# Altium schematic symbol library RD3399-20181013_Library.SchLib: 411 symbols (part 13 of 13)
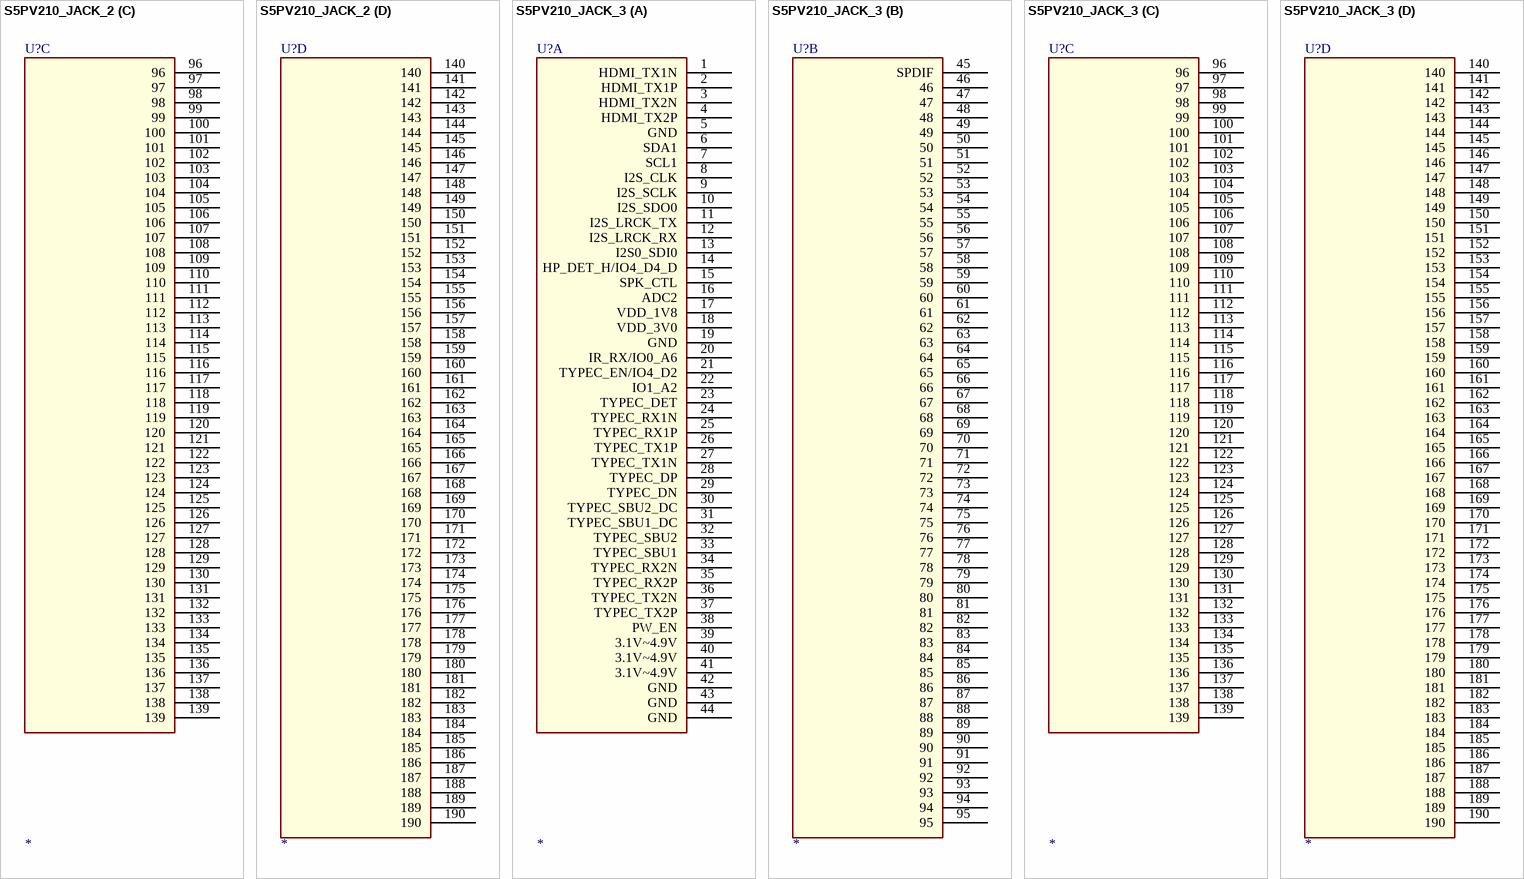
[diagram p197: symbols S5PV210_JACK_2 to S5PV210_JACK_3]

## S5PV210_JACK_2
designator U?
footprint S5PV210_JACK
part A pins: 1, 2, 3, 4, 5, 6, 7, 8, 9, 10, 11, 12, 13, 14, 15, 16, 17, 18, 19, 20, 21, 22, 23, 24, 25, 26, 27, 28, 29, 30, 31, 32, 33, 34, 35, 36, 37, 38, 39, 40, 41, 42, 43, 44
part B pins: 45 SPDIF, 46, 47, 48, 49, 50, 51, 52, 53, 54, 55, 56, 57, 58, 59, 60, 61, 62, 63, 64, 65, 66, 67, 68, 69, 70, 71, 72, 73, 74, 75, 76, 77, 78, 79, 80, 81, 82, 83, 84, 85, 86, 87, 88, 89, 90, 91, 92, 93, 94, 95
part C pins: 96, 97, 98, 99, 100, 101, 102, 103, 104, 105, 106, 107, 108, 109, 110, 111, 112, 113, 114, 115, 116, 117, 118, 119, 120, 121, 122, 123, 124, 125, 126, 127, 128, 129, 130, 131, 132, 133, 134, 135, 136, 137, 138, 139
part D pins: 140, 141, 142, 143, 144, 145, 146, 147, 148, 149, 150, 151, 152, 153, 154, 155, 156, 157, 158, 159, 160, 161, 162, 163, 164, 165, 166, 167, 168, 169, 170, 171, 172, 173, 174, 175, 176, 177, 178, 179, 180, 181, 182, 183, 184, 185, 186, 187, 188, 189, 190

## S5PV210_JACK_3
designator U?
footprint S5PV210_JACK
part A pins: 1 HDMI_TX1N, 2 HDMI_TX1P, 3 HDMI_TX2N, 4 HDMI_TX2P, 5 GND (power), 6 SDA1, 7 SCL1, 8 I2S_CLK, 9 I2S_SCLK, 10 I2S_SDO0, 11 I2S_LRCK_TX, 12 I2S_LRCK_RX, 13 I2S0_SDI0, 14 HP_DET_H/IO4_D4_D, 15 SPK_CTL, 16 ADC2, 17 VDD_1V8, 18 VDD_3V0, 19 GND (power), 20 IR_RX/IO0_A6, 21 TYPEC_EN/IO4_D2, 22 IO1_A2, 23 TYPEC_DET, 24 TYPEC_RX1N, 25 TYPEC_RX1P, 26 TYPEC_TX1P, 27 TYPEC_TX1N, 28 TYPEC_DP, 29 TYPEC_DN, 30 TYPEC_SBU2_DC, 31 TYPEC_SBU1_DC, 32 TYPEC_SBU2, 33 TYPEC_SBU1, 34 TYPEC_RX2N, 35 TYPEC_RX2P, 36 TYPEC_TX2N, 37 TYPEC_TX2P, 38 PW_EN, 39 3.1V~4.9V (power), 40 3.1V~4.9V (power), 41 3.1V~4.9V (power), 42 GND (power), 43 GND (power), 44 GND (power)
part B pins: 45 SPDIF, 46, 47, 48, 49, 50, 51, 52, 53, 54, 55, 56, 57, 58, 59, 60, 61, 62, 63, 64, 65, 66, 67, 68, 69, 70, 71, 72, 73, 74, 75, 76, 77, 78, 79, 80, 81, 82, 83, 84, 85, 86, 87, 88, 89, 90, 91, 92, 93, 94, 95
part C pins: 96, 97, 98, 99, 100, 101, 102, 103, 104, 105, 106, 107, 108, 109, 110, 111, 112, 113, 114, 115, 116, 117, 118, 119, 120, 121, 122, 123, 124, 125, 126, 127, 128, 129, 130, 131, 132, 133, 134, 135, 136, 137, 138, 139
part D pins: 140, 141, 142, 143, 144, 145, 146, 147, 148, 149, 150, 151, 152, 153, 154, 155, 156, 157, 158, 159, 160, 161, 162, 163, 164, 165, 166, 167, 168, 169, 170, 171, 172, 173, 174, 175, 176, 177, 178, 179, 180, 181, 182, 183, 184, 185, 186, 187, 188, 189, 190

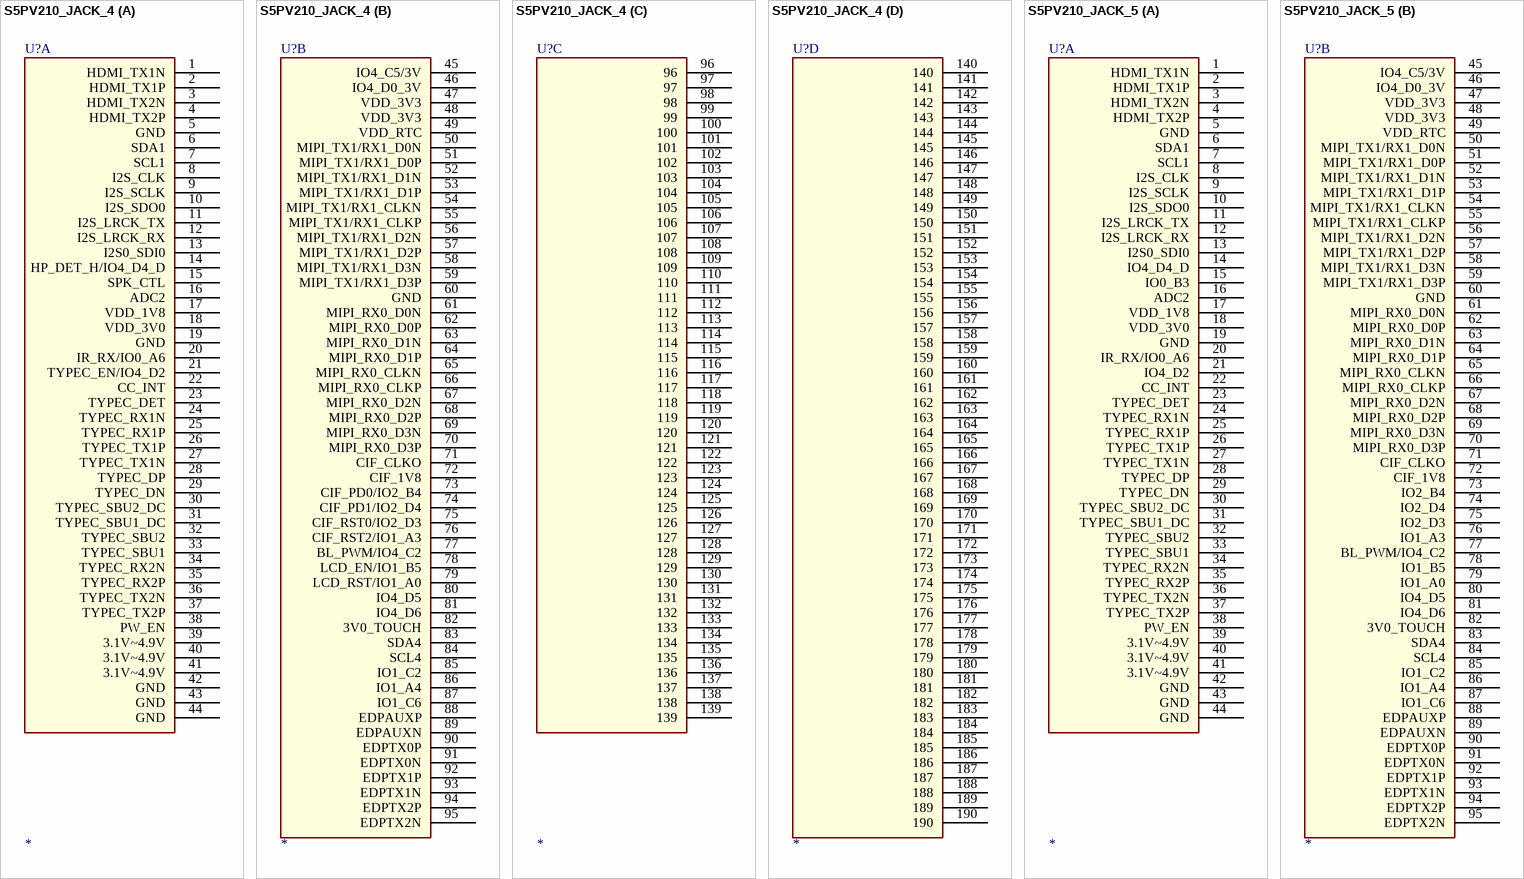
[diagram p176: symbols S5PV210_JACK_4 to S5PV210_JACK_5]

## S5PV210_JACK_4
designator U?
footprint S5PV210_JACK
part A pins: 1 HDMI_TX1N, 2 HDMI_TX1P, 3 HDMI_TX2N, 4 HDMI_TX2P, 5 GND (power), 6 SDA1, 7 SCL1, 8 I2S_CLK, 9 I2S_SCLK, 10 I2S_SDO0, 11 I2S_LRCK_TX, 12 I2S_LRCK_RX, 13 I2S0_SDI0, 14 HP_DET_H/IO4_D4_D, 15 SPK_CTL, 16 ADC2, 17 VDD_1V8, 18 VDD_3V0, 19 GND (power), 20 IR_RX/IO0_A6, 21 TYPEC_EN/IO4_D2, 22 CC_INT, 23 TYPEC_DET, 24 TYPEC_RX1N, 25 TYPEC_RX1P, 26 TYPEC_TX1P, 27 TYPEC_TX1N, 28 TYPEC_DP, 29 TYPEC_DN, 30 TYPEC_SBU2_DC, 31 TYPEC_SBU1_DC, 32 TYPEC_SBU2, 33 TYPEC_SBU1, 34 TYPEC_RX2N, 35 TYPEC_RX2P, 36 TYPEC_TX2N, 37 TYPEC_TX2P, 38 PW_EN, 39 3.1V~4.9V (power), 40 3.1V~4.9V (power), 41 3.1V~4.9V (power), 42 GND (power), 43 GND (power), 44 GND (power)
part B pins: 45 IO4_C5/3V, 46 IO4_D0_3V, 47 VDD_3V3 (power), 48 VDD_3V3 (power), 49 VDD_RTC, 50 MIPI_TX1/RX1_D0N, 51 MIPI_TX1/RX1_D0P, 52 MIPI_TX1/RX1_D1N, 53 MIPI_TX1/RX1_D1P, 54 MIPI_TX1/RX1_CLKN, 55 MIPI_TX1/RX1_CLKP, 56 MIPI_TX1/RX1_D2N, 57 MIPI_TX1/RX1_D2P, 58 MIPI_TX1/RX1_D3N, 59 MIPI_TX1/RX1_D3P, 60 GND, 61 MIPI_RX0_D0N, 62 MIPI_RX0_D0P, 63 MIPI_RX0_D1N, 64 MIPI_RX0_D1P, 65 MIPI_RX0_CLKN, 66 MIPI_RX0_CLKP, 67 MIPI_RX0_D2N, 68 MIPI_RX0_D2P, 69 MIPI_RX0_D3N, 70 MIPI_RX0_D3P, 71 CIF_CLKO, 72 CIF_1V8, 73 CIF_PD0/IO2_B4, 74 CIF_PD1/IO2_D4, 75 CIF_RST0/IO2_D3, 76 CIF_RST2/IO1_A3, 77 BL_PWM/IO4_C2, 78 LCD_EN/IO1_B5, 79 LCD_RST/IO1_A0, 80 IO4_D5, 81 IO4_D6, 82 3V0_TOUCH, 83 SDA4, 84 SCL4, 85 IO1_C2, 86 IO1_A4, 87 IO1_C6, 88 EDPAUXP, 89 EDPAUXN, 90 EDPTX0P, 91 EDPTX0N, 92 EDPTX1P, 93 EDPTX1N, 94 EDPTX2P, 95 EDPTX2N
part C pins: 96, 97, 98, 99, 100, 101, 102, 103, 104, 105, 106, 107, 108, 109, 110, 111, 112, 113, 114, 115, 116, 117, 118, 119, 120, 121, 122, 123, 124, 125, 126, 127, 128, 129, 130, 131, 132, 133, 134, 135, 136, 137, 138, 139
part D pins: 140, 141, 142, 143, 144, 145, 146, 147, 148, 149, 150, 151, 152, 153, 154, 155, 156, 157, 158, 159, 160, 161, 162, 163, 164, 165, 166, 167, 168, 169, 170, 171, 172, 173, 174, 175, 176, 177, 178, 179, 180, 181, 182, 183, 184, 185, 186, 187, 188, 189, 190

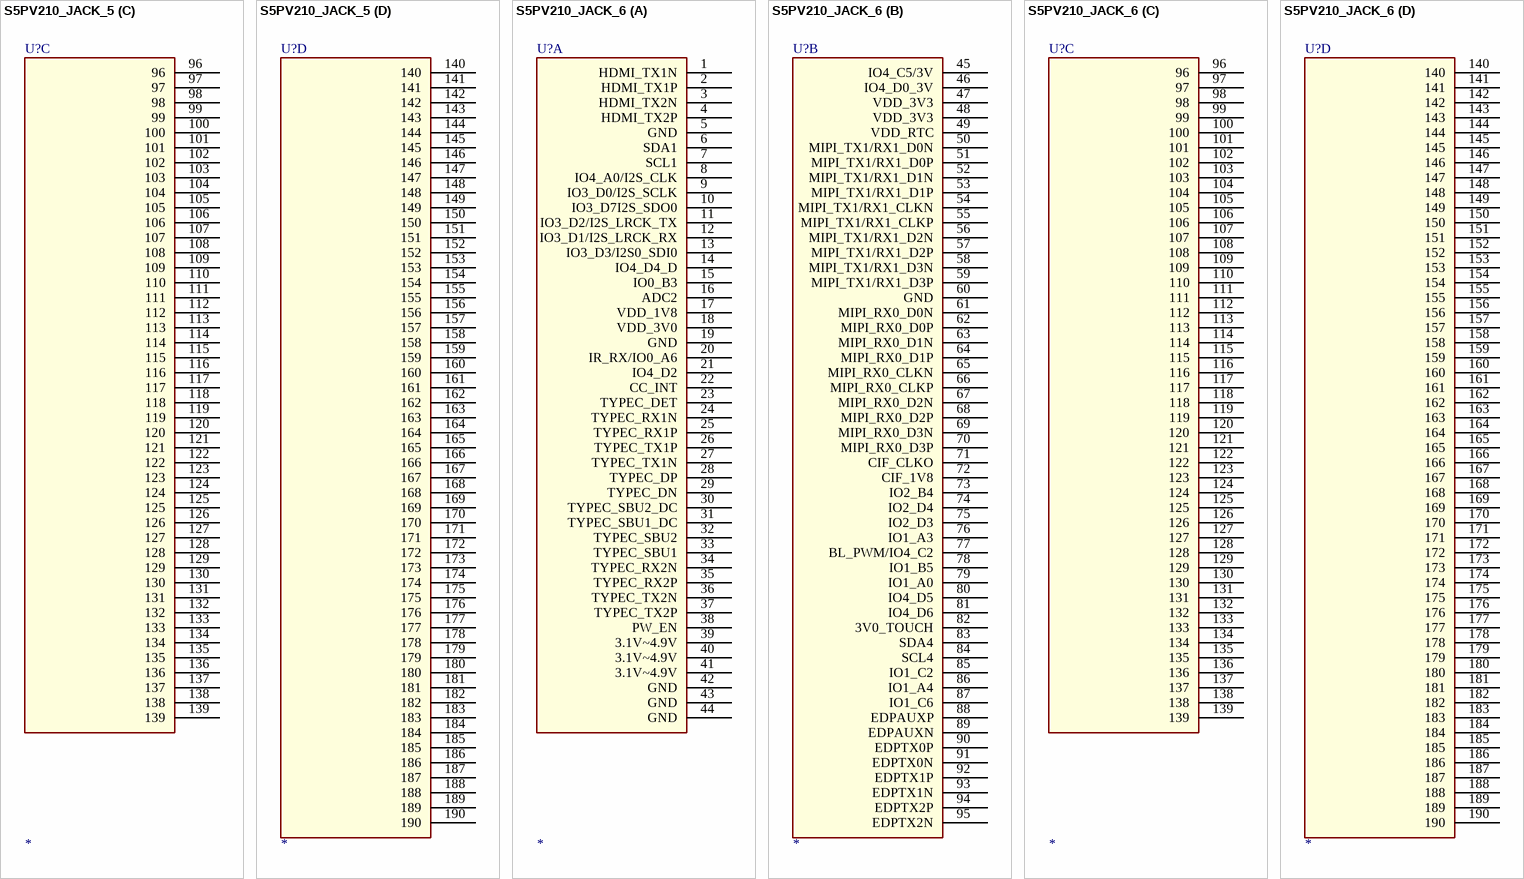
[diagram p177: symbols S5PV210_JACK_5 to S5PV210_JACK_6]

## S5PV210_JACK_5
designator U?
footprint S5PV210_JACK
part A pins: 1 HDMI_TX1N, 2 HDMI_TX1P, 3 HDMI_TX2N, 4 HDMI_TX2P, 5 GND (power), 6 SDA1, 7 SCL1, 8 I2S_CLK, 9 I2S_SCLK, 10 I2S_SDO0, 11 I2S_LRCK_TX, 12 I2S_LRCK_RX, 13 I2S0_SDI0, 14 IO4_D4_D, 15 IO0_B3, 16 ADC2, 17 VDD_1V8, 18 VDD_3V0, 19 GND (power), 20 IR_RX/IO0_A6, 21 IO4_D2, 22 CC_INT, 23 TYPEC_DET, 24 TYPEC_RX1N, 25 TYPEC_RX1P, 26 TYPEC_TX1P, 27 TYPEC_TX1N, 28 TYPEC_DP, 29 TYPEC_DN, 30 TYPEC_SBU2_DC, 31 TYPEC_SBU1_DC, 32 TYPEC_SBU2, 33 TYPEC_SBU1, 34 TYPEC_RX2N, 35 TYPEC_RX2P, 36 TYPEC_TX2N, 37 TYPEC_TX2P, 38 PW_EN, 39 3.1V~4.9V (power), 40 3.1V~4.9V (power), 41 3.1V~4.9V (power), 42 GND (power), 43 GND (power), 44 GND (power)
part B pins: 45 IO4_C5/3V, 46 IO4_D0_3V, 47 VDD_3V3 (power), 48 VDD_3V3 (power), 49 VDD_RTC, 50 MIPI_TX1/RX1_D0N, 51 MIPI_TX1/RX1_D0P, 52 MIPI_TX1/RX1_D1N, 53 MIPI_TX1/RX1_D1P, 54 MIPI_TX1/RX1_CLKN, 55 MIPI_TX1/RX1_CLKP, 56 MIPI_TX1/RX1_D2N, 57 MIPI_TX1/RX1_D2P, 58 MIPI_TX1/RX1_D3N, 59 MIPI_TX1/RX1_D3P, 60 GND, 61 MIPI_RX0_D0N, 62 MIPI_RX0_D0P, 63 MIPI_RX0_D1N, 64 MIPI_RX0_D1P, 65 MIPI_RX0_CLKN, 66 MIPI_RX0_CLKP, 67 MIPI_RX0_D2N, 68 MIPI_RX0_D2P, 69 MIPI_RX0_D3N, 70 MIPI_RX0_D3P, 71 CIF_CLKO, 72 CIF_1V8, 73 IO2_B4, 74 IO2_D4, 75 IO2_D3, 76 IO1_A3, 77 BL_PWM/IO4_C2, 78 IO1_B5, 79 IO1_A0, 80 IO4_D5, 81 IO4_D6, 82 3V0_TOUCH, 83 SDA4, 84 SCL4, 85 IO1_C2, 86 IO1_A4, 87 IO1_C6, 88 EDPAUXP, 89 EDPAUXN, 90 EDPTX0P, 91 EDPTX0N, 92 EDPTX1P, 93 EDPTX1N, 94 EDPTX2P, 95 EDPTX2N
part C pins: 96, 97, 98, 99, 100, 101, 102, 103, 104, 105, 106, 107, 108, 109, 110, 111, 112, 113, 114, 115, 116, 117, 118, 119, 120, 121, 122, 123, 124, 125, 126, 127, 128, 129, 130, 131, 132, 133, 134, 135, 136, 137, 138, 139
part D pins: 140, 141, 142, 143, 144, 145, 146, 147, 148, 149, 150, 151, 152, 153, 154, 155, 156, 157, 158, 159, 160, 161, 162, 163, 164, 165, 166, 167, 168, 169, 170, 171, 172, 173, 174, 175, 176, 177, 178, 179, 180, 181, 182, 183, 184, 185, 186, 187, 188, 189, 190

## S5PV210_JACK_6
designator U?
footprint S5PV210_JACK
part A pins: 1 HDMI_TX1N, 2 HDMI_TX1P, 3 HDMI_TX2N, 4 HDMI_TX2P, 5 GND (power), 6 SDA1, 7 SCL1, 8 IO4_A0/I2S_CLK, 9 IO3_D0/I2S_SCLK, 10 IO3_D7I2S_SDO0, 11 IO3_D2/I2S_LRCK_TX, 12 IO3_D1/I2S_LRCK_RX, 13 IO3_D3/I2S0_SDI0, 14 IO4_D4_D, 15 IO0_B3, 16 ADC2, 17 VDD_1V8, 18 VDD_3V0, 19 GND (power), 20 IR_RX/IO0_A6, 21 IO4_D2, 22 CC_INT, 23 TYPEC_DET, 24 TYPEC_RX1N, 25 TYPEC_RX1P, 26 TYPEC_TX1P, 27 TYPEC_TX1N, 28 TYPEC_DP, 29 TYPEC_DN, 30 TYPEC_SBU2_DC, 31 TYPEC_SBU1_DC, 32 TYPEC_SBU2, 33 TYPEC_SBU1, 34 TYPEC_RX2N, 35 TYPEC_RX2P, 36 TYPEC_TX2N, 37 TYPEC_TX2P, 38 PW_EN, 39 3.1V~4.9V (power), 40 3.1V~4.9V (power), 41 3.1V~4.9V (power), 42 GND (power), 43 GND (power), 44 GND (power)
part B pins: 45 IO4_C5/3V, 46 IO4_D0_3V, 47 VDD_3V3 (power), 48 VDD_3V3 (power), 49 VDD_RTC, 50 MIPI_TX1/RX1_D0N, 51 MIPI_TX1/RX1_D0P, 52 MIPI_TX1/RX1_D1N, 53 MIPI_TX1/RX1_D1P, 54 MIPI_TX1/RX1_CLKN, 55 MIPI_TX1/RX1_CLKP, 56 MIPI_TX1/RX1_D2N, 57 MIPI_TX1/RX1_D2P, 58 MIPI_TX1/RX1_D3N, 59 MIPI_TX1/RX1_D3P, 60 GND, 61 MIPI_RX0_D0N, 62 MIPI_RX0_D0P, 63 MIPI_RX0_D1N, 64 MIPI_RX0_D1P, 65 MIPI_RX0_CLKN, 66 MIPI_RX0_CLKP, 67 MIPI_RX0_D2N, 68 MIPI_RX0_D2P, 69 MIPI_RX0_D3N, 70 MIPI_RX0_D3P, 71 CIF_CLKO, 72 CIF_1V8, 73 IO2_B4, 74 IO2_D4, 75 IO2_D3, 76 IO1_A3, 77 BL_PWM/IO4_C2, 78 IO1_B5, 79 IO1_A0, 80 IO4_D5, 81 IO4_D6, 82 3V0_TOUCH, 83 SDA4, 84 SCL4, 85 IO1_C2, 86 IO1_A4, 87 IO1_C6, 88 EDPAUXP, 89 EDPAUXN, 90 EDPTX0P, 91 EDPTX0N, 92 EDPTX1P, 93 EDPTX1N, 94 EDPTX2P, 95 EDPTX2N
part C pins: 96, 97, 98, 99, 100, 101, 102, 103, 104, 105, 106, 107, 108, 109, 110, 111, 112, 113, 114, 115, 116, 117, 118, 119, 120, 121, 122, 123, 124, 125, 126, 127, 128, 129, 130, 131, 132, 133, 134, 135, 136, 137, 138, 139
part D pins: 140, 141, 142, 143, 144, 145, 146, 147, 148, 149, 150, 151, 152, 153, 154, 155, 156, 157, 158, 159, 160, 161, 162, 163, 164, 165, 166, 167, 168, 169, 170, 171, 172, 173, 174, 175, 176, 177, 178, 179, 180, 181, 182, 183, 184, 185, 186, 187, 188, 189, 190

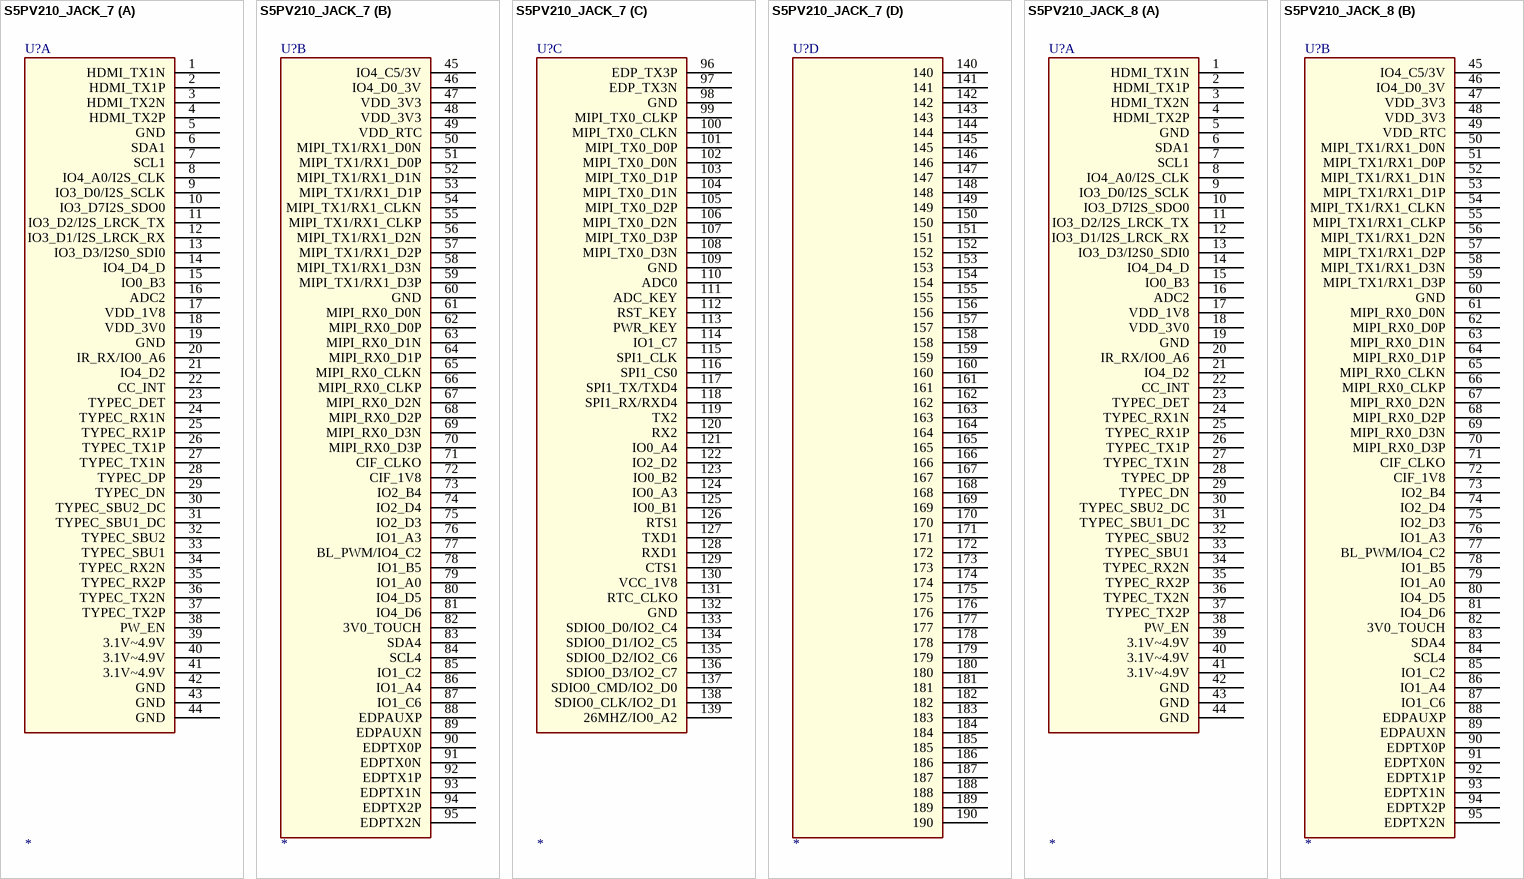
[diagram p178: symbols S5PV210_JACK_7 to S5PV210_JACK_8]

## S5PV210_JACK_7
designator U?
footprint S5PV210_JACK
part A pins: 1 HDMI_TX1N, 2 HDMI_TX1P, 3 HDMI_TX2N, 4 HDMI_TX2P, 5 GND (power), 6 SDA1, 7 SCL1, 8 IO4_A0/I2S_CLK, 9 IO3_D0/I2S_SCLK, 10 IO3_D7I2S_SDO0, 11 IO3_D2/I2S_LRCK_TX, 12 IO3_D1/I2S_LRCK_RX, 13 IO3_D3/I2S0_SDI0, 14 IO4_D4_D, 15 IO0_B3, 16 ADC2, 17 VDD_1V8, 18 VDD_3V0, 19 GND (power), 20 IR_RX/IO0_A6, 21 IO4_D2, 22 CC_INT, 23 TYPEC_DET, 24 TYPEC_RX1N, 25 TYPEC_RX1P, 26 TYPEC_TX1P, 27 TYPEC_TX1N, 28 TYPEC_DP, 29 TYPEC_DN, 30 TYPEC_SBU2_DC, 31 TYPEC_SBU1_DC, 32 TYPEC_SBU2, 33 TYPEC_SBU1, 34 TYPEC_RX2N, 35 TYPEC_RX2P, 36 TYPEC_TX2N, 37 TYPEC_TX2P, 38 PW_EN, 39 3.1V~4.9V (power), 40 3.1V~4.9V (power), 41 3.1V~4.9V (power), 42 GND (power), 43 GND (power), 44 GND (power)
part B pins: 45 IO4_C5/3V, 46 IO4_D0_3V, 47 VDD_3V3 (power), 48 VDD_3V3 (power), 49 VDD_RTC, 50 MIPI_TX1/RX1_D0N, 51 MIPI_TX1/RX1_D0P, 52 MIPI_TX1/RX1_D1N, 53 MIPI_TX1/RX1_D1P, 54 MIPI_TX1/RX1_CLKN, 55 MIPI_TX1/RX1_CLKP, 56 MIPI_TX1/RX1_D2N, 57 MIPI_TX1/RX1_D2P, 58 MIPI_TX1/RX1_D3N, 59 MIPI_TX1/RX1_D3P, 60 GND, 61 MIPI_RX0_D0N, 62 MIPI_RX0_D0P, 63 MIPI_RX0_D1N, 64 MIPI_RX0_D1P, 65 MIPI_RX0_CLKN, 66 MIPI_RX0_CLKP, 67 MIPI_RX0_D2N, 68 MIPI_RX0_D2P, 69 MIPI_RX0_D3N, 70 MIPI_RX0_D3P, 71 CIF_CLKO, 72 CIF_1V8, 73 IO2_B4, 74 IO2_D4, 75 IO2_D3, 76 IO1_A3, 77 BL_PWM/IO4_C2, 78 IO1_B5, 79 IO1_A0, 80 IO4_D5, 81 IO4_D6, 82 3V0_TOUCH, 83 SDA4, 84 SCL4, 85 IO1_C2, 86 IO1_A4, 87 IO1_C6, 88 EDPAUXP, 89 EDPAUXN, 90 EDPTX0P, 91 EDPTX0N, 92 EDPTX1P, 93 EDPTX1N, 94 EDPTX2P, 95 EDPTX2N
part C pins: 96 EDP_TX3P, 97 EDP_TX3N, 98 GND (power), 99 MIPI_TX0_CLKP, 100 MIPI_TX0_CLKN, 101 MIPI_TX0_D0P, 102 MIPI_TX0_D0N, 103 MIPI_TX0_D1P, 104 MIPI_TX0_D1N, 105 MIPI_TX0_D2P, 106 MIPI_TX0_D2N, 107 MIPI_TX0_D3P, 108 MIPI_TX0_D3N, 109 GND (power), 110 ADC0, 111 ADC_KEY, 112 RST_KEY, 113 PWR_KEY, 114 IO1_C7, 115 SPI1_CLK, 116 SPI1_CS0, 117 SPI1_TX/TXD4, 118 SPI1_RX/RXD4, 119 TX2, 120 RX2, 121 IO0_A4, 122 IO2_D2, 123 IO0_B2, 124 IO0_A3, 125 IO0_B1, 126 RTS1, 127 TXD1, 128 RXD1, 129 CTS1, 130 VCC_1V8, 131 RTC_CLKO, 132 GND (power), 133 SDIO0_D0/IO2_C4, 134 SDIO0_D1/IO2_C5, 135 SDIO0_D2/IO2_C6, 136 SDIO0_D3/IO2_C7, 137 SDIO0_CMD/IO2_D0, 138 SDIO0_CLK/IO2_D1, 139 26MHZ/IO0_A2
part D pins: 140, 141, 142, 143, 144, 145, 146, 147, 148, 149, 150, 151, 152, 153, 154, 155, 156, 157, 158, 159, 160, 161, 162, 163, 164, 165, 166, 167, 168, 169, 170, 171, 172, 173, 174, 175, 176, 177, 178, 179, 180, 181, 182, 183, 184, 185, 186, 187, 188, 189, 190

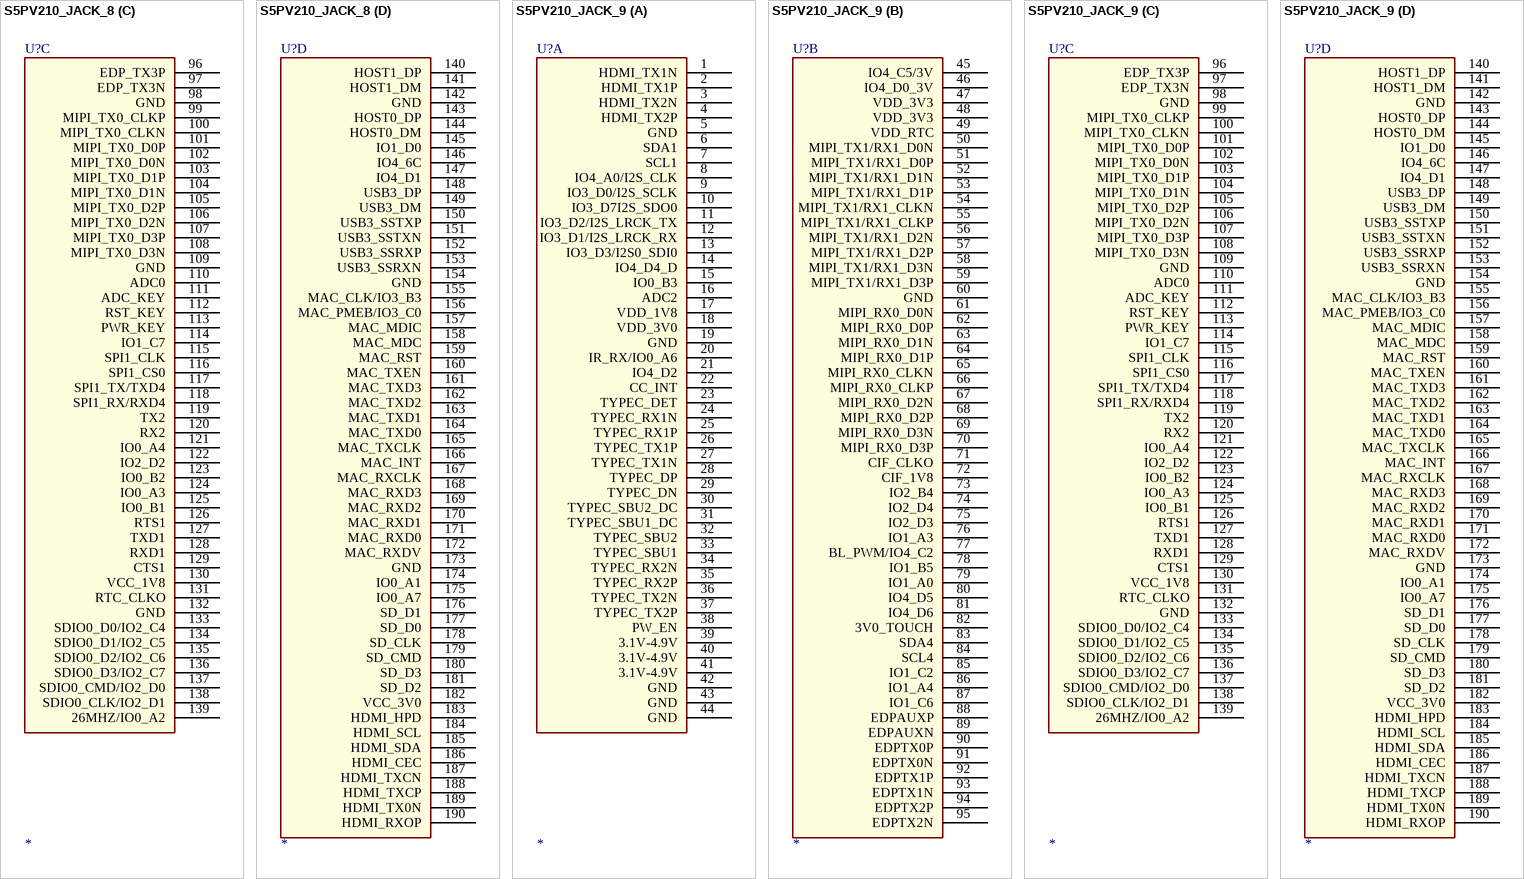
[diagram p179: symbols S5PV210_JACK_8 to S5PV210_JACK_9]

## S5PV210_JACK_8
designator U?
footprint S5PV210_JACK
part A pins: 1 HDMI_TX1N, 2 HDMI_TX1P, 3 HDMI_TX2N, 4 HDMI_TX2P, 5 GND (power), 6 SDA1, 7 SCL1, 8 IO4_A0/I2S_CLK, 9 IO3_D0/I2S_SCLK, 10 IO3_D7I2S_SDO0, 11 IO3_D2/I2S_LRCK_TX, 12 IO3_D1/I2S_LRCK_RX, 13 IO3_D3/I2S0_SDI0, 14 IO4_D4_D, 15 IO0_B3, 16 ADC2, 17 VDD_1V8, 18 VDD_3V0, 19 GND (power), 20 IR_RX/IO0_A6, 21 IO4_D2, 22 CC_INT, 23 TYPEC_DET, 24 TYPEC_RX1N, 25 TYPEC_RX1P, 26 TYPEC_TX1P, 27 TYPEC_TX1N, 28 TYPEC_DP, 29 TYPEC_DN, 30 TYPEC_SBU2_DC, 31 TYPEC_SBU1_DC, 32 TYPEC_SBU2, 33 TYPEC_SBU1, 34 TYPEC_RX2N, 35 TYPEC_RX2P, 36 TYPEC_TX2N, 37 TYPEC_TX2P, 38 PW_EN, 39 3.1V~4.9V (power), 40 3.1V~4.9V (power), 41 3.1V~4.9V (power), 42 GND (power), 43 GND (power), 44 GND (power)
part B pins: 45 IO4_C5/3V, 46 IO4_D0_3V, 47 VDD_3V3 (power), 48 VDD_3V3 (power), 49 VDD_RTC, 50 MIPI_TX1/RX1_D0N, 51 MIPI_TX1/RX1_D0P, 52 MIPI_TX1/RX1_D1N, 53 MIPI_TX1/RX1_D1P, 54 MIPI_TX1/RX1_CLKN, 55 MIPI_TX1/RX1_CLKP, 56 MIPI_TX1/RX1_D2N, 57 MIPI_TX1/RX1_D2P, 58 MIPI_TX1/RX1_D3N, 59 MIPI_TX1/RX1_D3P, 60 GND, 61 MIPI_RX0_D0N, 62 MIPI_RX0_D0P, 63 MIPI_RX0_D1N, 64 MIPI_RX0_D1P, 65 MIPI_RX0_CLKN, 66 MIPI_RX0_CLKP, 67 MIPI_RX0_D2N, 68 MIPI_RX0_D2P, 69 MIPI_RX0_D3N, 70 MIPI_RX0_D3P, 71 CIF_CLKO, 72 CIF_1V8, 73 IO2_B4, 74 IO2_D4, 75 IO2_D3, 76 IO1_A3, 77 BL_PWM/IO4_C2, 78 IO1_B5, 79 IO1_A0, 80 IO4_D5, 81 IO4_D6, 82 3V0_TOUCH, 83 SDA4, 84 SCL4, 85 IO1_C2, 86 IO1_A4, 87 IO1_C6, 88 EDPAUXP, 89 EDPAUXN, 90 EDPTX0P, 91 EDPTX0N, 92 EDPTX1P, 93 EDPTX1N, 94 EDPTX2P, 95 EDPTX2N
part C pins: 96 EDP_TX3P, 97 EDP_TX3N, 98 GND (power), 99 MIPI_TX0_CLKP, 100 MIPI_TX0_CLKN, 101 MIPI_TX0_D0P, 102 MIPI_TX0_D0N, 103 MIPI_TX0_D1P, 104 MIPI_TX0_D1N, 105 MIPI_TX0_D2P, 106 MIPI_TX0_D2N, 107 MIPI_TX0_D3P, 108 MIPI_TX0_D3N, 109 GND (power), 110 ADC0, 111 ADC_KEY, 112 RST_KEY, 113 PWR_KEY, 114 IO1_C7, 115 SPI1_CLK, 116 SPI1_CS0, 117 SPI1_TX/TXD4, 118 SPI1_RX/RXD4, 119 TX2, 120 RX2, 121 IO0_A4, 122 IO2_D2, 123 IO0_B2, 124 IO0_A3, 125 IO0_B1, 126 RTS1, 127 TXD1, 128 RXD1, 129 CTS1, 130 VCC_1V8, 131 RTC_CLKO, 132 GND (power), 133 SDIO0_D0/IO2_C4, 134 SDIO0_D1/IO2_C5, 135 SDIO0_D2/IO2_C6, 136 SDIO0_D3/IO2_C7, 137 SDIO0_CMD/IO2_D0, 138 SDIO0_CLK/IO2_D1, 139 26MHZ/IO0_A2
part D pins: 140 HOST1_DP, 141 HOST1_DM, 142 GND (power), 143 HOST0_DP, 144 HOST0_DM, 145 IO1_D0, 146 IO4_6C, 147 IO4_D1, 148 USB3_DP, 149 USB3_DM, 150 USB3_SSTXP, 151 USB3_SSTXN, 152 USB3_SSRXP, 153 USB3_SSRXN, 154 GND (power), 155 MAC_CLK/IO3_B3, 156 MAC_PMEB/IO3_C0, 157 MAC_MDIC, 158 MAC_MDC, 159 MAC_RST, 160 MAC_TXEN, 161 MAC_TXD3, 162 MAC_TXD2, 163 MAC_TXD1, 164 MAC_TXD0, 165 MAC_TXCLK, 166 MAC_INT, 167 MAC_RXCLK, 168 MAC_RXD3, 169 MAC_RXD2, 170 MAC_RXD1, 171 MAC_RXD0, 172 MAC_RXDV, 173 GND (power), 174 IO0_A1, 175 IO0_A7, 176 SD_D1, 177 SD_D0, 178 SD_CLK, 179 SD_CMD, 180 SD_D3, 181 SD_D2, 182 VCC_3V0, 183 HDMI_HPD, 184 HDMI_SCL, 185 HDMI_SDA, 186 HDMI_CEC, 187 HDMI_TXCN, 188 HDMI_TXCP, 189 HDMI_TX0N, 190 HDMI_RXOP

## S5PV210_JACK_9
designator U?
footprint S5PV210_JACK
part A pins: 1 HDMI_TX1N, 2 HDMI_TX1P, 3 HDMI_TX2N, 4 HDMI_TX2P, 5 GND (power), 6 SDA1, 7 SCL1, 8 IO4_A0/I2S_CLK, 9 IO3_D0/I2S_SCLK, 10 IO3_D7I2S_SDO0, 11 IO3_D2/I2S_LRCK_TX, 12 IO3_D1/I2S_LRCK_RX, 13 IO3_D3/I2S0_SDI0, 14 IO4_D4_D, 15 IO0_B3, 16 ADC2, 17 VDD_1V8, 18 VDD_3V0, 19 GND (power), 20 IR_RX/IO0_A6, 21 IO4_D2, 22 CC_INT, 23 TYPEC_DET, 24 TYPEC_RX1N, 25 TYPEC_RX1P, 26 TYPEC_TX1P, 27 TYPEC_TX1N, 28 TYPEC_DP, 29 TYPEC_DN, 30 TYPEC_SBU2_DC, 31 TYPEC_SBU1_DC, 32 TYPEC_SBU2, 33 TYPEC_SBU1, 34 TYPEC_RX2N, 35 TYPEC_RX2P, 36 TYPEC_TX2N, 37 TYPEC_TX2P, 38 PW_EN, 39 3.1V-4.9V (power), 40 3.1V-4.9V (power), 41 3.1V-4.9V (power), 42 GND (power), 43 GND (power), 44 GND (power)
part B pins: 45 IO4_C5/3V, 46 IO4_D0_3V, 47 VDD_3V3 (power), 48 VDD_3V3 (power), 49 VDD_RTC, 50 MIPI_TX1/RX1_D0N, 51 MIPI_TX1/RX1_D0P, 52 MIPI_TX1/RX1_D1N, 53 MIPI_TX1/RX1_D1P, 54 MIPI_TX1/RX1_CLKN, 55 MIPI_TX1/RX1_CLKP, 56 MIPI_TX1/RX1_D2N, 57 MIPI_TX1/RX1_D2P, 58 MIPI_TX1/RX1_D3N, 59 MIPI_TX1/RX1_D3P, 60 GND, 61 MIPI_RX0_D0N, 62 MIPI_RX0_D0P, 63 MIPI_RX0_D1N, 64 MIPI_RX0_D1P, 65 MIPI_RX0_CLKN, 66 MIPI_RX0_CLKP, 67 MIPI_RX0_D2N, 68 MIPI_RX0_D2P, 69 MIPI_RX0_D3N, 70 MIPI_RX0_D3P, 71 CIF_CLKO, 72 CIF_1V8, 73 IO2_B4, 74 IO2_D4, 75 IO2_D3, 76 IO1_A3, 77 BL_PWM/IO4_C2, 78 IO1_B5, 79 IO1_A0, 80 IO4_D5, 81 IO4_D6, 82 3V0_TOUCH, 83 SDA4, 84 SCL4, 85 IO1_C2, 86 IO1_A4, 87 IO1_C6, 88 EDPAUXP, 89 EDPAUXN, 90 EDPTX0P, 91 EDPTX0N, 92 EDPTX1P, 93 EDPTX1N, 94 EDPTX2P, 95 EDPTX2N
part C pins: 96 EDP_TX3P, 97 EDP_TX3N, 98 GND (power), 99 MIPI_TX0_CLKP, 100 MIPI_TX0_CLKN, 101 MIPI_TX0_D0P, 102 MIPI_TX0_D0N, 103 MIPI_TX0_D1P, 104 MIPI_TX0_D1N, 105 MIPI_TX0_D2P, 106 MIPI_TX0_D2N, 107 MIPI_TX0_D3P, 108 MIPI_TX0_D3N, 109 GND (power), 110 ADC0, 111 ADC_KEY, 112 RST_KEY, 113 PWR_KEY, 114 IO1_C7, 115 SPI1_CLK, 116 SPI1_CS0, 117 SPI1_TX/TXD4, 118 SPI1_RX/RXD4, 119 TX2, 120 RX2, 121 IO0_A4, 122 IO2_D2, 123 IO0_B2, 124 IO0_A3, 125 IO0_B1, 126 RTS1, 127 TXD1, 128 RXD1, 129 CTS1, 130 VCC_1V8, 131 RTC_CLKO, 132 GND (power), 133 SDIO0_D0/IO2_C4, 134 SDIO0_D1/IO2_C5, 135 SDIO0_D2/IO2_C6, 136 SDIO0_D3/IO2_C7, 137 SDIO0_CMD/IO2_D0, 138 SDIO0_CLK/IO2_D1, 139 26MHZ/IO0_A2
part D pins: 140 HOST1_DP, 141 HOST1_DM, 142 GND (power), 143 HOST0_DP, 144 HOST0_DM, 145 IO1_D0, 146 IO4_6C, 147 IO4_D1, 148 USB3_DP, 149 USB3_DM, 150 USB3_SSTXP, 151 USB3_SSTXN, 152 USB3_SSRXP, 153 USB3_SSRXN, 154 GND (power), 155 MAC_CLK/IO3_B3, 156 MAC_PMEB/IO3_C0, 157 MAC_MDIC, 158 MAC_MDC, 159 MAC_RST, 160 MAC_TXEN, 161 MAC_TXD3, 162 MAC_TXD2, 163 MAC_TXD1, 164 MAC_TXD0, 165 MAC_TXCLK, 166 MAC_INT, 167 MAC_RXCLK, 168 MAC_RXD3, 169 MAC_RXD2, 170 MAC_RXD1, 171 MAC_RXD0, 172 MAC_RXDV, 173 GND (power), 174 IO0_A1, 175 IO0_A7, 176 SD_D1, 177 SD_D0, 178 SD_CLK, 179 SD_CMD, 180 SD_D3, 181 SD_D2, 182 VCC_3V0, 183 HDMI_HPD, 184 HDMI_SCL, 185 HDMI_SDA, 186 HDMI_CEC, 187 HDMI_TXCN, 188 HDMI_TXCP, 189 HDMI_TX0N, 190 HDMI_RXOP

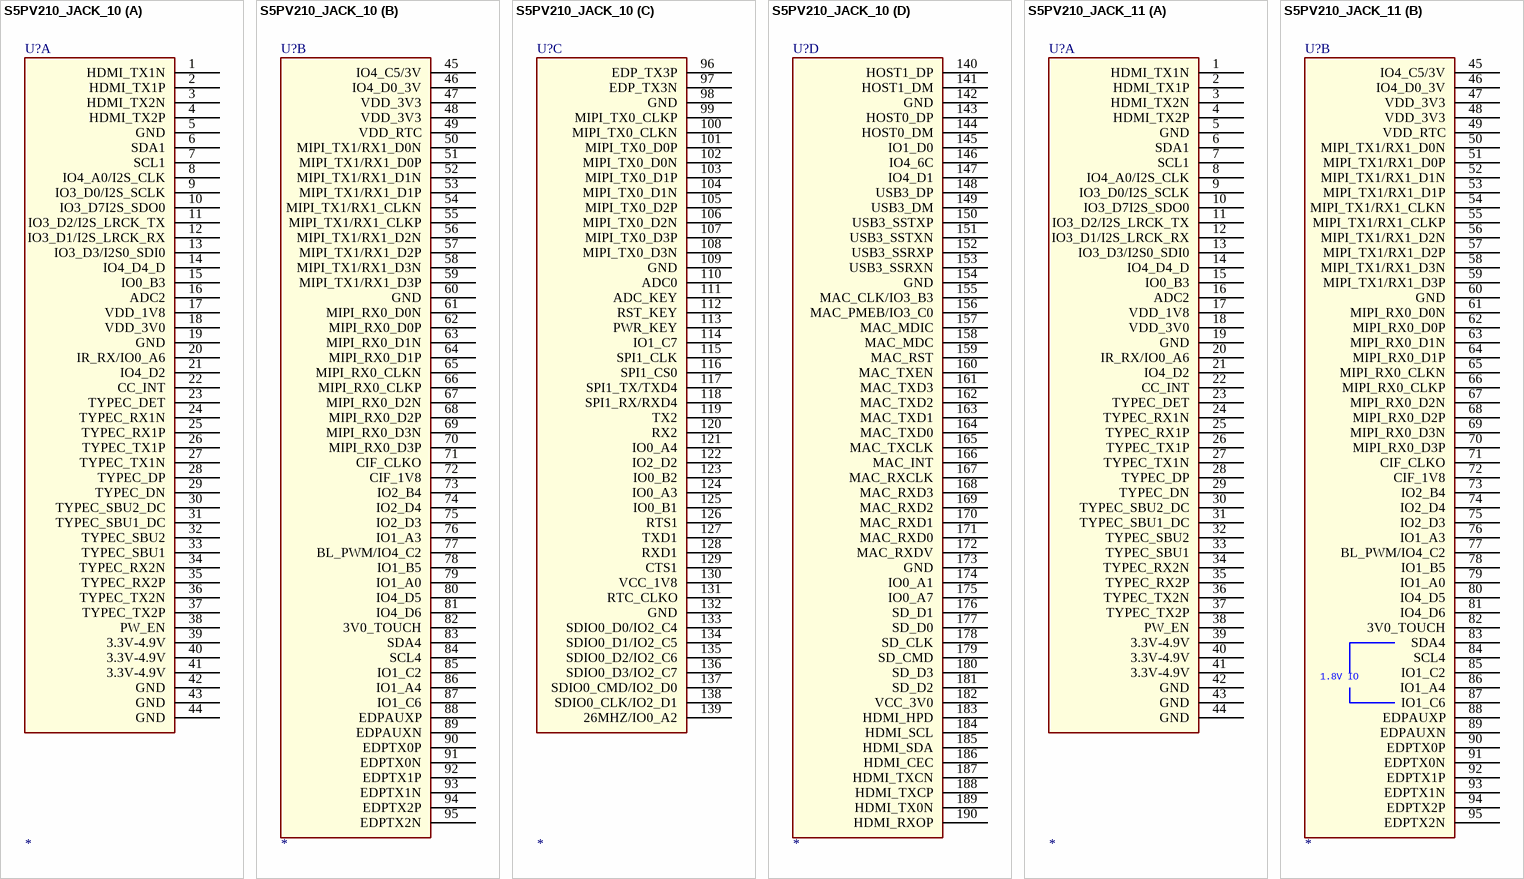
[diagram p180: symbols S5PV210_JACK_10 to S5PV210_JACK_11]

## S5PV210_JACK_10
designator U?
footprint S5PV210_JACK
part A pins: 1 HDMI_TX1N, 2 HDMI_TX1P, 3 HDMI_TX2N, 4 HDMI_TX2P, 5 GND (power), 6 SDA1, 7 SCL1, 8 IO4_A0/I2S_CLK, 9 IO3_D0/I2S_SCLK, 10 IO3_D7I2S_SDO0, 11 IO3_D2/I2S_LRCK_TX, 12 IO3_D1/I2S_LRCK_RX, 13 IO3_D3/I2S0_SDI0, 14 IO4_D4_D, 15 IO0_B3, 16 ADC2, 17 VDD_1V8, 18 VDD_3V0, 19 GND (power), 20 IR_RX/IO0_A6, 21 IO4_D2, 22 CC_INT, 23 TYPEC_DET, 24 TYPEC_RX1N, 25 TYPEC_RX1P, 26 TYPEC_TX1P, 27 TYPEC_TX1N, 28 TYPEC_DP, 29 TYPEC_DN, 30 TYPEC_SBU2_DC, 31 TYPEC_SBU1_DC, 32 TYPEC_SBU2, 33 TYPEC_SBU1, 34 TYPEC_RX2N, 35 TYPEC_RX2P, 36 TYPEC_TX2N, 37 TYPEC_TX2P, 38 PW_EN, 39 3.3V-4.9V (power), 40 3.3V-4.9V (power), 41 3.3V-4.9V (power), 42 GND (power), 43 GND (power), 44 GND (power)
part B pins: 45 IO4_C5/3V, 46 IO4_D0_3V, 47 VDD_3V3 (power), 48 VDD_3V3 (power), 49 VDD_RTC, 50 MIPI_TX1/RX1_D0N, 51 MIPI_TX1/RX1_D0P, 52 MIPI_TX1/RX1_D1N, 53 MIPI_TX1/RX1_D1P, 54 MIPI_TX1/RX1_CLKN, 55 MIPI_TX1/RX1_CLKP, 56 MIPI_TX1/RX1_D2N, 57 MIPI_TX1/RX1_D2P, 58 MIPI_TX1/RX1_D3N, 59 MIPI_TX1/RX1_D3P, 60 GND, 61 MIPI_RX0_D0N, 62 MIPI_RX0_D0P, 63 MIPI_RX0_D1N, 64 MIPI_RX0_D1P, 65 MIPI_RX0_CLKN, 66 MIPI_RX0_CLKP, 67 MIPI_RX0_D2N, 68 MIPI_RX0_D2P, 69 MIPI_RX0_D3N, 70 MIPI_RX0_D3P, 71 CIF_CLKO, 72 CIF_1V8, 73 IO2_B4, 74 IO2_D4, 75 IO2_D3, 76 IO1_A3, 77 BL_PWM/IO4_C2, 78 IO1_B5, 79 IO1_A0, 80 IO4_D5, 81 IO4_D6, 82 3V0_TOUCH, 83 SDA4, 84 SCL4, 85 IO1_C2, 86 IO1_A4, 87 IO1_C6, 88 EDPAUXP, 89 EDPAUXN, 90 EDPTX0P, 91 EDPTX0N, 92 EDPTX1P, 93 EDPTX1N, 94 EDPTX2P, 95 EDPTX2N
part C pins: 96 EDP_TX3P, 97 EDP_TX3N, 98 GND (power), 99 MIPI_TX0_CLKP, 100 MIPI_TX0_CLKN, 101 MIPI_TX0_D0P, 102 MIPI_TX0_D0N, 103 MIPI_TX0_D1P, 104 MIPI_TX0_D1N, 105 MIPI_TX0_D2P, 106 MIPI_TX0_D2N, 107 MIPI_TX0_D3P, 108 MIPI_TX0_D3N, 109 GND (power), 110 ADC0, 111 ADC_KEY, 112 RST_KEY, 113 PWR_KEY, 114 IO1_C7, 115 SPI1_CLK, 116 SPI1_CS0, 117 SPI1_TX/TXD4, 118 SPI1_RX/RXD4, 119 TX2, 120 RX2, 121 IO0_A4, 122 IO2_D2, 123 IO0_B2, 124 IO0_A3, 125 IO0_B1, 126 RTS1, 127 TXD1, 128 RXD1, 129 CTS1, 130 VCC_1V8, 131 RTC_CLKO, 132 GND (power), 133 SDIO0_D0/IO2_C4, 134 SDIO0_D1/IO2_C5, 135 SDIO0_D2/IO2_C6, 136 SDIO0_D3/IO2_C7, 137 SDIO0_CMD/IO2_D0, 138 SDIO0_CLK/IO2_D1, 139 26MHZ/IO0_A2
part D pins: 140 HOST1_DP, 141 HOST1_DM, 142 GND (power), 143 HOST0_DP, 144 HOST0_DM, 145 IO1_D0, 146 IO4_6C, 147 IO4_D1, 148 USB3_DP, 149 USB3_DM, 150 USB3_SSTXP, 151 USB3_SSTXN, 152 USB3_SSRXP, 153 USB3_SSRXN, 154 GND (power), 155 MAC_CLK/IO3_B3, 156 MAC_PMEB/IO3_C0, 157 MAC_MDIC, 158 MAC_MDC, 159 MAC_RST, 160 MAC_TXEN, 161 MAC_TXD3, 162 MAC_TXD2, 163 MAC_TXD1, 164 MAC_TXD0, 165 MAC_TXCLK, 166 MAC_INT, 167 MAC_RXCLK, 168 MAC_RXD3, 169 MAC_RXD2, 170 MAC_RXD1, 171 MAC_RXD0, 172 MAC_RXDV, 173 GND (power), 174 IO0_A1, 175 IO0_A7, 176 SD_D1, 177 SD_D0, 178 SD_CLK, 179 SD_CMD, 180 SD_D3, 181 SD_D2, 182 VCC_3V0, 183 HDMI_HPD, 184 HDMI_SCL, 185 HDMI_SDA, 186 HDMI_CEC, 187 HDMI_TXCN, 188 HDMI_TXCP, 189 HDMI_TX0N, 190 HDMI_RXOP

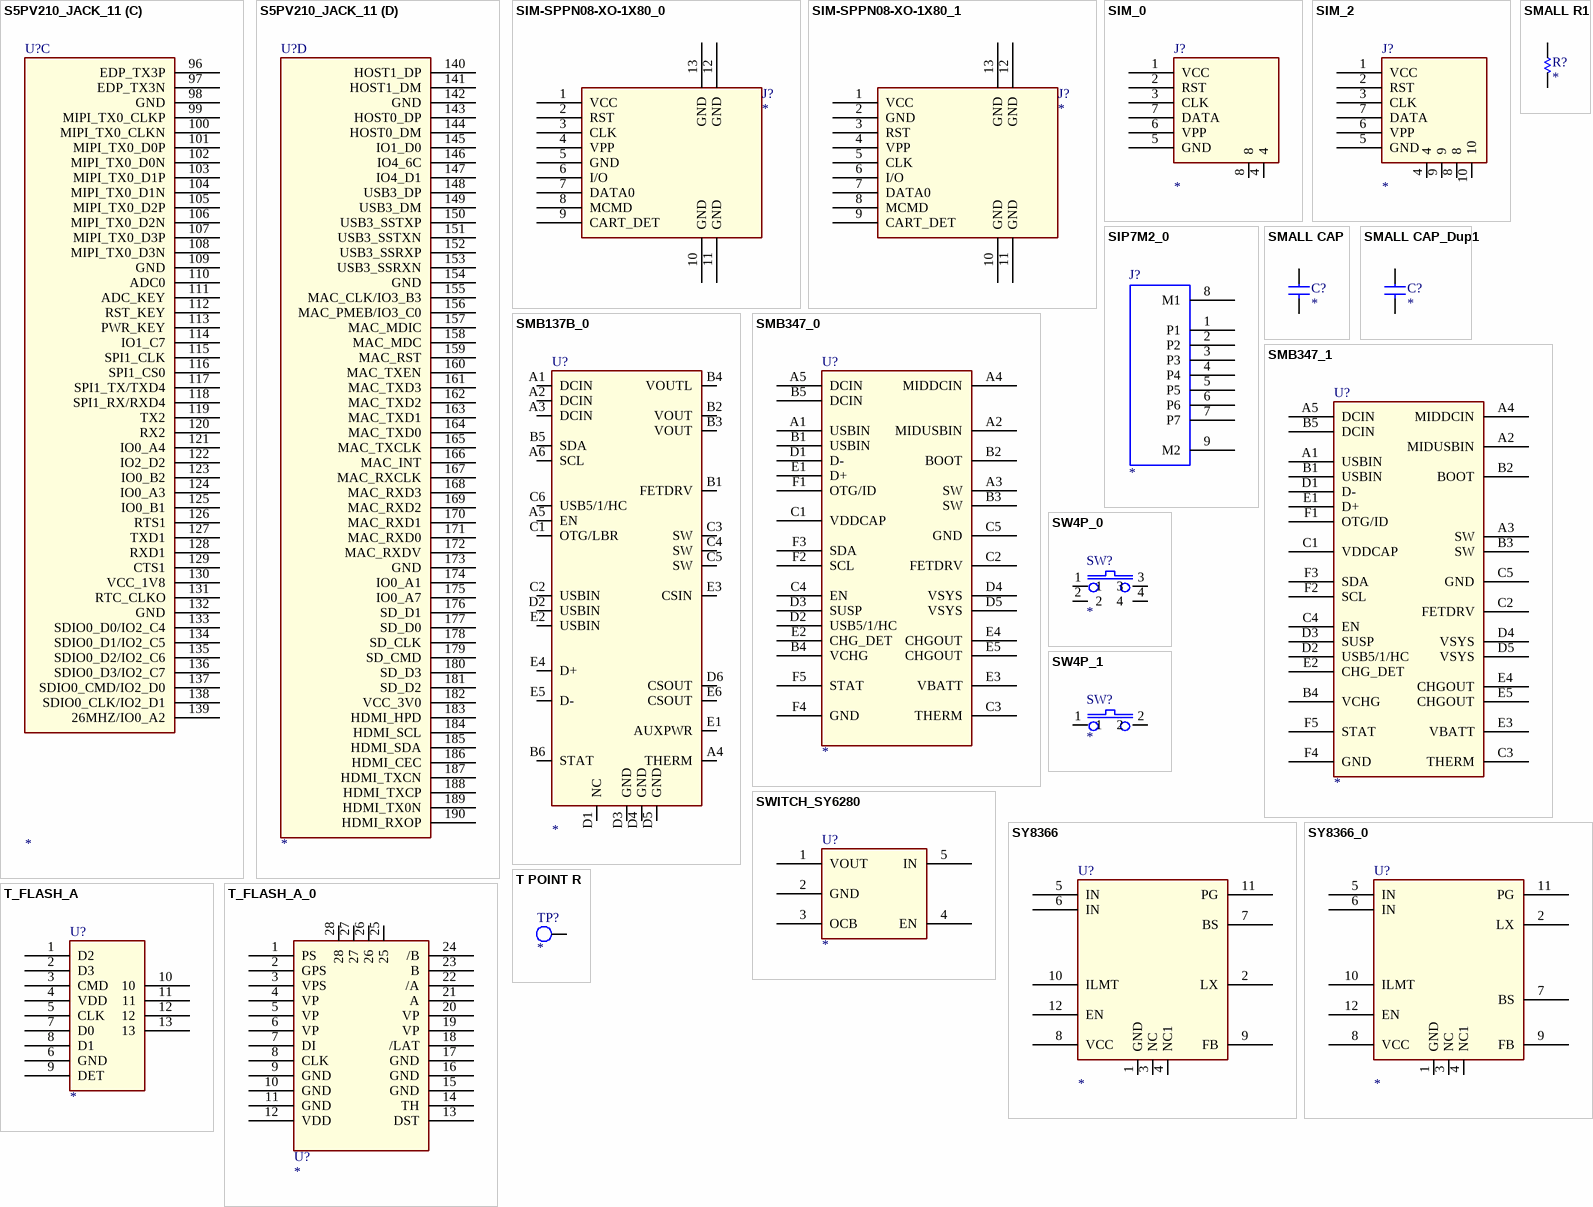
[diagram p181: symbols S5PV210_JACK_11 to T_FLASH_A_0]

## S5PV210_JACK_11
designator U?
footprint S5PV210_JACK
part A pins: 1 HDMI_TX1N, 2 HDMI_TX1P, 3 HDMI_TX2N, 4 HDMI_TX2P, 5 GND (power), 6 SDA1, 7 SCL1, 8 IO4_A0/I2S_CLK, 9 IO3_D0/I2S_SCLK, 10 IO3_D7I2S_SDO0, 11 IO3_D2/I2S_LRCK_TX, 12 IO3_D1/I2S_LRCK_RX, 13 IO3_D3/I2S0_SDI0, 14 IO4_D4_D, 15 IO0_B3, 16 ADC2, 17 VDD_1V8, 18 VDD_3V0, 19 GND (power), 20 IR_RX/IO0_A6, 21 IO4_D2, 22 CC_INT, 23 TYPEC_DET, 24 TYPEC_RX1N, 25 TYPEC_RX1P, 26 TYPEC_TX1P, 27 TYPEC_TX1N, 28 TYPEC_DP, 29 TYPEC_DN, 30 TYPEC_SBU2_DC, 31 TYPEC_SBU1_DC, 32 TYPEC_SBU2, 33 TYPEC_SBU1, 34 TYPEC_RX2N, 35 TYPEC_RX2P, 36 TYPEC_TX2N, 37 TYPEC_TX2P, 38 PW_EN, 39 3.3V-4.9V (power), 40 3.3V-4.9V (power), 41 3.3V-4.9V (power), 42 GND (power), 43 GND (power), 44 GND (power)
part B pins: 45 IO4_C5/3V, 46 IO4_D0_3V, 47 VDD_3V3 (power), 48 VDD_3V3 (power), 49 VDD_RTC, 50 MIPI_TX1/RX1_D0N, 51 MIPI_TX1/RX1_D0P, 52 MIPI_TX1/RX1_D1N, 53 MIPI_TX1/RX1_D1P, 54 MIPI_TX1/RX1_CLKN, 55 MIPI_TX1/RX1_CLKP, 56 MIPI_TX1/RX1_D2N, 57 MIPI_TX1/RX1_D2P, 58 MIPI_TX1/RX1_D3N, 59 MIPI_TX1/RX1_D3P, 60 GND, 61 MIPI_RX0_D0N, 62 MIPI_RX0_D0P, 63 MIPI_RX0_D1N, 64 MIPI_RX0_D1P, 65 MIPI_RX0_CLKN, 66 MIPI_RX0_CLKP, 67 MIPI_RX0_D2N, 68 MIPI_RX0_D2P, 69 MIPI_RX0_D3N, 70 MIPI_RX0_D3P, 71 CIF_CLKO, 72 CIF_1V8, 73 IO2_B4, 74 IO2_D4, 75 IO2_D3, 76 IO1_A3, 77 BL_PWM/IO4_C2, 78 IO1_B5, 79 IO1_A0, 80 IO4_D5, 81 IO4_D6, 82 3V0_TOUCH, 83 SDA4, 84 SCL4, 85 IO1_C2, 86 IO1_A4, 87 IO1_C6, 88 EDPAUXP, 89 EDPAUXN, 90 EDPTX0P, 91 EDPTX0N, 92 EDPTX1P, 93 EDPTX1N, 94 EDPTX2P, 95 EDPTX2N
part C pins: 96 EDP_TX3P, 97 EDP_TX3N, 98 GND (power), 99 MIPI_TX0_CLKP, 100 MIPI_TX0_CLKN, 101 MIPI_TX0_D0P, 102 MIPI_TX0_D0N, 103 MIPI_TX0_D1P, 104 MIPI_TX0_D1N, 105 MIPI_TX0_D2P, 106 MIPI_TX0_D2N, 107 MIPI_TX0_D3P, 108 MIPI_TX0_D3N, 109 GND (power), 110 ADC0, 111 ADC_KEY, 112 RST_KEY, 113 PWR_KEY, 114 IO1_C7, 115 SPI1_CLK, 116 SPI1_CS0, 117 SPI1_TX/TXD4, 118 SPI1_RX/RXD4, 119 TX2, 120 RX2, 121 IO0_A4, 122 IO2_D2, 123 IO0_B2, 124 IO0_A3, 125 IO0_B1, 126 RTS1, 127 TXD1, 128 RXD1, 129 CTS1, 130 VCC_1V8, 131 RTC_CLKO, 132 GND (power), 133 SDIO0_D0/IO2_C4, 134 SDIO0_D1/IO2_C5, 135 SDIO0_D2/IO2_C6, 136 SDIO0_D3/IO2_C7, 137 SDIO0_CMD/IO2_D0, 138 SDIO0_CLK/IO2_D1, 139 26MHZ/IO0_A2
part D pins: 140 HOST1_DP, 141 HOST1_DM, 142 GND (power), 143 HOST0_DP, 144 HOST0_DM, 145 IO1_D0, 146 IO4_6C, 147 IO4_D1, 148 USB3_DP, 149 USB3_DM, 150 USB3_SSTXP, 151 USB3_SSTXN, 152 USB3_SSRXP, 153 USB3_SSRXN, 154 GND (power), 155 MAC_CLK/IO3_B3, 156 MAC_PMEB/IO3_C0, 157 MAC_MDIC, 158 MAC_MDC, 159 MAC_RST, 160 MAC_TXEN, 161 MAC_TXD3, 162 MAC_TXD2, 163 MAC_TXD1, 164 MAC_TXD0, 165 MAC_TXCLK, 166 MAC_INT, 167 MAC_RXCLK, 168 MAC_RXD3, 169 MAC_RXD2, 170 MAC_RXD1, 171 MAC_RXD0, 172 MAC_RXDV, 173 GND (power), 174 IO0_A1, 175 IO0_A7, 176 SD_D1, 177 SD_D0, 178 SD_CLK, 179 SD_CMD, 180 SD_D3, 181 SD_D2, 182 VCC_3V0, 183 HDMI_HPD, 184 HDMI_SCL, 185 HDMI_SDA, 186 HDMI_CEC, 187 HDMI_TXCN, 188 HDMI_TXCP, 189 HDMI_TX0N, 190 HDMI_RXOP
part B text: 1.8V IO

## SIM-SPPN08-XO-1X80_0
designator J?
footprint SIM-SPPN08-XO-1X80
pins: 1 VCC, 2 RST, 3 CLK, 4 VPP, 5 GND, 6 I/O, 7 DATA0, 8 MCMD, 9 CART_DET, 10 GND, 11 GND, 12 GND, 13 GND

## SIM-SPPN08-XO-1X80_1
designator J?
footprint SIM-SPPN08-XO-1X80
pins: 1 VCC, 2 GND, 3 RST, 4 VPP, 5 CLK, 6 I/O, 7 DATA0, 8 MCMD, 9 CART_DET, 10 GND, 11 GND, 12 GND, 13 GND

## SIM_0
designator J?
footprint SIM_1
pins: 1 VCC, 2 RST, 3 CLK, 4, 5 GND, 6 VPP, 7 DATA, 8

## SIM_2
designator J?
footprint SIM_1
pins: 1 VCC, 2 RST, 3 CLK, 4, 5 GND, 6 VPP, 7 DATA, 8, 9, 10

## SIP7M2_0
designator J?
PARTS: 1; DEVICE: 67491-1032; LEVEL: STD; PKG_TYPE: 9; CODE: 184999; OriginalSymbolOrigin: (10,130)
pins: 1 P1, 2 P2, 3 P3, 4 P4, 5 P5, 6 P6, 7 P7, 8 M1, 9 M2

## SMALL CAP
designator C?
pins: 1, 2

## SMALL CAP_Dup1
designator C?
pins: 1, 2

## SMALL R1
designator R?
pins: 1, 2

## SMB137B_0
designator U?
pins: A1 DCIN, A2 DCIN, A3 DCIN, A4 THERM, A5 EN, A6 SCL, B1 FETDRV, B2 VOUT, B3 VOUT, B4 VOUTL, B5 SDA, B6 STAT, C1 OTG/LBR, C2 USBIN, C3 SW, C4 SW, C5 SW, C6 USB5/1/HC, D1 NC, D2 USBIN, D3 GND, D4 GND, D5 GND, D6 CSOUT, E1 AUXPWR, E2 USBIN, E3 CSIN, E4 D+, E5 D-, E6 CSOUT

## SMB347_0
designator U?
footprint BGA30-3X2.5
pins: A1 USBIN, A2 MIDUSBIN, A3 SW, A4 MIDDCIN, A5 DCIN, B1 USBIN, B2 BOOT, B3 SW, B4 VCHG, B5 DCIN, C1 VDDCAP, C2 FETDRV, C3 THERM, C4 EN, C5 GND, D1 D-, D2 USB5/1/HC, D3 SUSP, D4 VSYS, D5 VSYS, E1 D+, E2 CHG_DET, E3 VBATT, E4 CHGOUT, E5 CHGOUT, F1 OTG/ID, F2 SCL, F3 SDA, F4 GND, F5 STAT

## SMB347_1
designator U?
footprint BGA30-3X2.5
pins: A1 USBIN, A2 MIDUSBIN, A3 SW, A4 MIDDCIN, A5 DCIN, B1 USBIN, B2 BOOT, B3 SW, B4 VCHG, B5 DCIN, C1 VDDCAP, C2 FETDRV, C3 THERM, C4 EN, C5 GND, D1 D-, D2 USB5/1/HC, D3 SUSP, D4 VSYS, D5 VSYS, E1 D+, E2 CHG_DET, E3 VBATT, E4 CHGOUT, E5 CHGOUT, F1 OTG/ID, F2 SCL, F3 SDA, F4 GND, F5 STAT

## SW4P_0
designator SW?
pins: 1, 2, 3, 4

## SW4P_1
designator SW?
pins: 1, 2

## SWITCH_SY6280
designator U?
pins: 1 VOUT, 2 GND, 3 OCB, 4 EN, 5 IN

## SY8366
designator U?
pins: 1 GND, 2 LX, 3 NC (power), 4 NC1 (power), 5 IN (power), 6 IN (power), 7 BS, 8 VCC, 9 FB, 10 ILMT, 11 PG, 12 EN

## SY8366_0
designator U?
pins: 1 GND, 2 LX, 3 NC (power), 4 NC1 (power), 5 IN (power), 6 IN (power), 7 BS, 8 VCC, 9 FB, 10 ILMT, 11 PG, 12 EN

## T POINT R
designator TP?
pins: 1 TP

## T_FLASH_A
designator U?
footprint TFLASH-MOLEX-WITHSWITCH
pins: 1 D2, 2 D3, 3 CMD, 4 VDD, 5 CLK, 6 GND, 7 D0, 8 D1, 9 DET, 10, 11, 12, 13

## T_FLASH_A_0
designator U?
footprint TFLASH-MOLEX-WITHSWITCH
pins: 1 PS, 2 GPS, 3 VPS, 4 VP, 5 VP, 6 VP, 7 DI, 8 CLK, 9 GND, 10 GND, 11 GND, 12 VDD, 13 DST, 14 TH, 15 GND, 16 GND, 17 GND, 18 /LAT, 19 VP, 20 VP, 21 A, 22 /A, 23 B, 24 /B, 25, 26, 27, 28

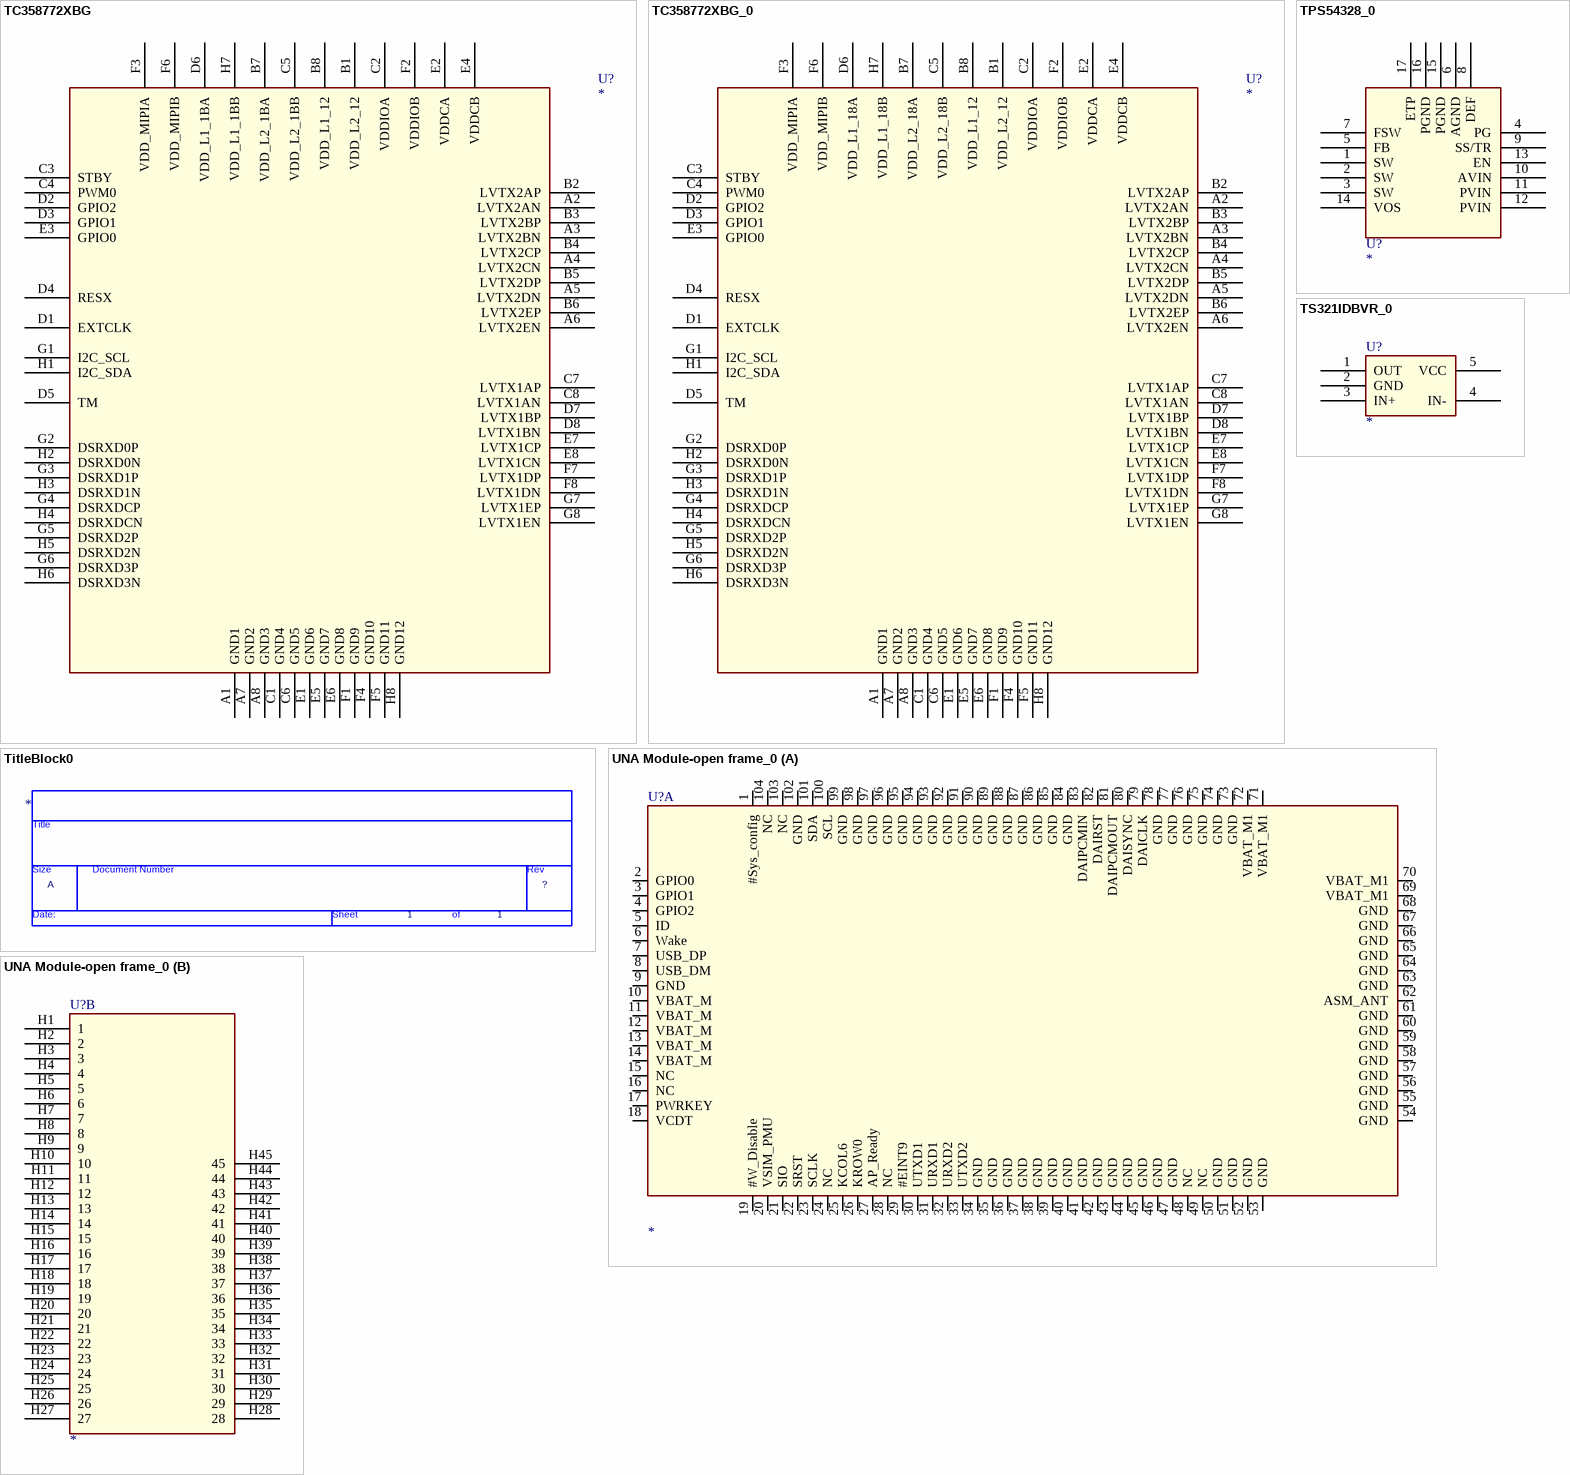
[diagram p182: symbols TC358772XBG to UNA Module-open frame_0]

## TC358772XBG
designator U?
pins: A1 GND1, A2 LVTX2AN, A3 LVTX2BN, A4 LVTX2CN, A5 LVTX2DN, A6 LVTX2EN, A7 GND2, A8 GND3, B1 VDD_L2_12, B2 LVTX2AP, B3 LVTX2BP, B4 LVTX2CP, B5 LVTX2DP, B6 LVTX2EP, B7 VDD_L2_1BA, B8 VDD_L1_12, C1 GND4, C2 VDDIOA, C3 STBY, C4 PWM0, C5 VDD_L2_1BB, C6 GND5, C7 LVTX1AP, C8 LVTX1AN, D1 EXTCLK, D2 GPIO2, D3 GPIO1, D4 RESX, D5 TM, D6 VDD_L1_1BA, D7 LVTX1BP, D8 LVTX1BN, E1 GND6, E2 VDDCA, E3 GPIO0, E4 VDDCB, E5 GND7, E6 GND8, E7 LVTX1CP, E8 LVTX1CN, F1 GND9, F2 VDDIOB, F3 VDD_MIPIA, F4 GND10, F5 GND11, F6 VDD_MIPIB, F7 LVTX1DP, F8 LVTX1DN, G1 I2C_SCL, G2 DSRXD0P, G3 DSRXD1P, G4 DSRXDCP, G5 DSRXD2P, G6 DSRXD3P, G7 LVTX1EP, G8 LVTX1EN, H1 I2C_SDA, H2 DSRXD0N, H3 DSRXD1N, H4 DSRXDCN, H5 DSRXD2N, H6 DSRXD3N, H7 VDD_L1_1BB, H8 GND12

## TC358772XBG_0
designator U?
pins: A1 GND1, A2 LVTX2AN, A3 LVTX2BN, A4 LVTX2CN, A5 LVTX2DN, A6 LVTX2EN, A7 GND2, A8 GND3, B1 VDD_L2_12, B2 LVTX2AP, B3 LVTX2BP, B4 LVTX2CP, B5 LVTX2DP, B6 LVTX2EP, B7 VDD_L2_18A, B8 VDD_L1_12, C1 GND4, C2 VDDIOA, C3 STBY, C4 PWM0, C5 VDD_L2_18B, C6 GND5, C7 LVTX1AP, C8 LVTX1AN, D1 EXTCLK, D2 GPIO2, D3 GPIO1, D4 RESX, D5 TM, D6 VDD_L1_18A, D7 LVTX1BP, D8 LVTX1BN, E1 GND6, E2 VDDCA, E3 GPIO0, E4 VDDCB, E5 GND7, E6 GND8, E7 LVTX1CP, E8 LVTX1CN, F1 GND9, F2 VDDIOB, F3 VDD_MIPIA, F4 GND10, F5 GND11, F6 VDD_MIPIB, F7 LVTX1DP, F8 LVTX1DN, G1 I2C_SCL, G2 DSRXD0P, G3 DSRXD1P, G4 DSRXDCP, G5 DSRXD2P, G6 DSRXD3P, G7 LVTX1EP, G8 LVTX1EN, H1 I2C_SDA, H2 DSRXD0N, H3 DSRXD1N, H4 DSRXDCN, H5 DSRXD2N, H6 DSRXD3N, H7 VDD_L1_18B, H8 GND12

## TitleBlock0
designator *  Page Size: A  Page Number: 1  (graphical)
Page Create Date: March  8, 1995; RevCode: ?; Page Count: 1
text: Title; Size; Document Number; Rev; Date:; Sheet; of

## TPS54328_0
designator U?
footprint SOP8A
pins: 1 SW, 2 SW, 3 SW, 4 PG, 5 FB, 6 AGND, 7 FSW, 8 DEF, 9 SS/TR, 10 AVIN, 11 PVIN, 12 PVIN, 13 EN, 14 VOS, 15 PGND, 16 PGND, 17 ETP

## TS321IDBVR_0
designator U?
footprint SOT25
pins: 1 OUT, 2 GND, 3 IN+, 4 IN-, 5 VCC

## UNA Module-open frame_0
designator U?
part A pins: 1 #Sys_config, 2 GPIO0, 3 GPIO1, 4 GPIO2, 5 ID, 6 Wake, 7 USB_DP, 8 USB_DM, 9 GND, 10 VBAT_M, 11 VBAT_M, 12 VBAT_M, 13 VBAT_M, 14 VBAT_M, 15 NC, 16 NC, 17 PWRKEY, 18 VCDT, 19 #W_Disable, 20 VSIM_PMU, 21 SIO, 22 SRST, 23 SCLK, 24 NC, 25 KCOL6, 26 KROW0, 27 AP_Ready, 28 NC, 29 #EINT9, 30 UTXD1, 31 URXD1, 32 URXD2, 33 UTXD2, 34 GND, 35 GND, 36 GND, 37 GND, 38 GND, 39 GND, 40 GND, 41 GND, 42 GND, 43 GND, 44 GND, 45 GND, 46 GND, 47 GND, 48 NC, 49 NC, 50 GND, 51 GND, 52 GND, 53 GND, 54 GND, 55 GND, 56 GND, 57 GND, 58 GND, 59 GND, 60 GND, 61 GND, 62 ASM_ANT, 63 GND, 64 GND, 65 GND, 66 GND, 67 GND, 68 GND, 69 VBAT_M1, 70 VBAT_M1, 71 VBAT_M1, 72 VBAT_M1, 73 GND, 74 GND, 75 GND, 76 GND, 77 GND, 78 GND, 79 DAICLK, 80 DAISYNC, 81 DAIPCMOUT, 82 DAIRST, 83 DAIPCMIN, 84 GND, 85 GND, 86 GND, 87 GND, 88 GND, 89 GND, 90 GND, 91 GND, 92 GND, 93 GND, 94 GND, 95 GND, 96 GND, 97 GND, 98 GND, 99 GND, 100 SCL, 101 SDA, 102 GND, 103 NC, 104 NC
part B pins: H1 1, H2 2, H3 3, H4 4, H5 5, H6 6, H7 7, H8 8, H9 9, H10 10, H11 11, H12 12, H13 13, H14 14, H15 15, H16 16, H17 17, H18 18, H19 19, H20 20, H21 21, H22 22, H23 23, H24 24, H25 25, H26 26, H27 27, H28 28, H29 29, H30 30, H31 31, H32 32, H33 33, H34 34, H35 35, H36 36, H37 37, H38 38, H39 39, H40 40, H41 41, H42 42, H43 43, H44 44, H45 45

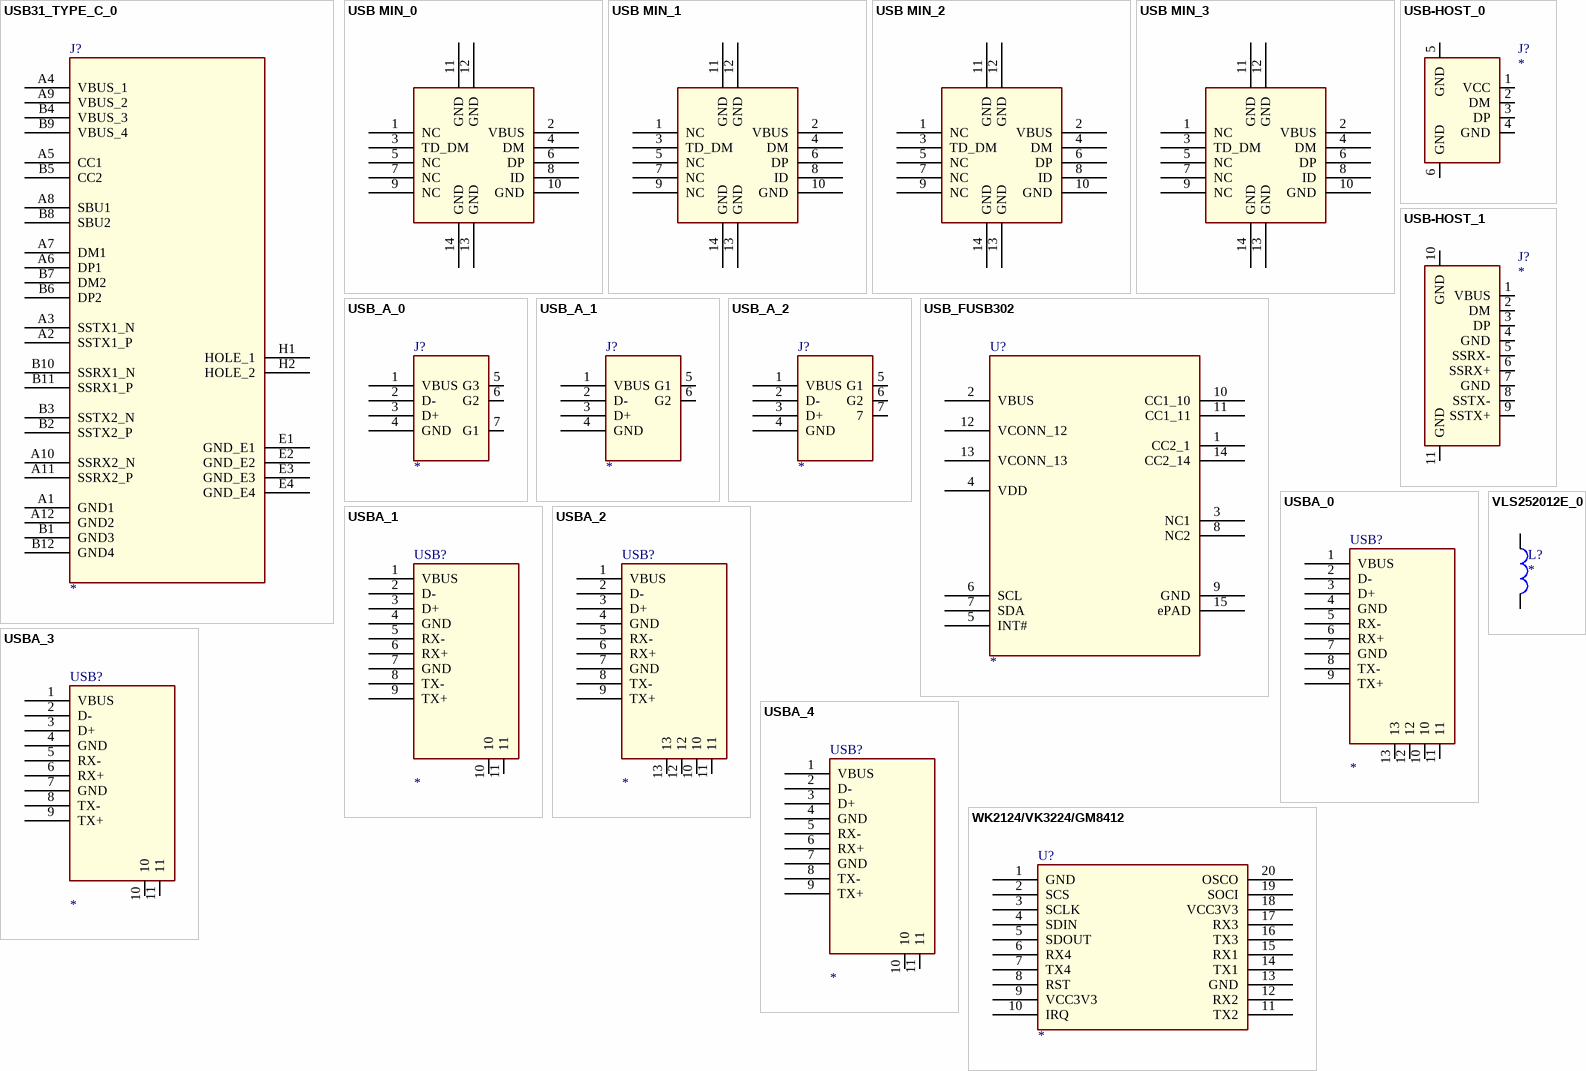
[diagram p183: symbols USB31_TYPE_C_0 to WK2124/VK3224/GM8412]

## USB31_TYPE_C_0
designator J?
pins: A1 GND1, A2 SSTX1_P, A3 SSTX1_N, A4 VBUS_1, A5 CC1, A6 DP1, A7 DM1, A8 SBU1, A9 VBUS_2, A10 SSRX2_N, A11 SSRX2_P, A12 GND2, B1 GND3, B2 SSTX2_P, B3 SSTX2_N, B4 VBUS_3, B5 CC2, B6 DP2, B7 DM2, B8 SBU2, B9 VBUS_4, B10 SSRX1_N, B11 SSRX1_P, B12 GND4, E1 GND_E1, E2 GND_E2, E3 GND_E3, E4 GND_E4, H1 HOLE_1, H2 HOLE_2

## USB MIN_0
designator J?
pins: 1 NC, 2 VBUS, 3 TD_DM, 4 DM, 5 NC (power), 6 DP, 7 NC, 8 ID, 9 NC, 10 GND, 11 GND, 12 GND, 13 GND, 14 GND

## USB MIN_1
designator J?
pins: 1 NC, 2 VBUS, 3 TD_DM, 4 DM, 5 NC (power), 6 DP, 7 NC, 8 ID, 9 NC, 10 GND, 11 GND, 12 GND, 13 GND, 14 GND

## USB MIN_2
designator J?
pins: 1 NC, 2 VBUS, 3 TD_DM, 4 DM, 5 NC, 6 DP, 7 NC, 8 ID, 9 NC, 10 GND, 11 GND, 12 GND, 13 GND, 14 GND

## USB MIN_3
designator J?
pins: 1 NC, 2 VBUS, 3 TD_DM, 4 DM, 5 NC, 6 DP, 7 NC, 8 ID, 9 NC, 10 GND, 11 GND, 12 GND, 13 GND, 14 GND

## USB-HOST_0
designator J?
footprint USB-HOST
pins: 1 VCC, 2 DM, 3 DP, 4 GND, 5 GND, 6 GND

## USB-HOST_1
designator J?
footprint USB-HOST
pins: 1 VBUS, 2 DM, 3 DP, 4 GND, 5 SSRX-, 6 SSRX+, 7 GND, 8 SSTX-, 9 SSTX+, 10 GND, 11 GND

## USB_A_0
designator J?
pins: 1 VBUS, 2 D-, 3 D+, 4 GND, 5 G3 (power), 6 G2 (power), 7 G1 (power)

## USB_A_1
designator J?
pins: 1 VBUS, 2 D-, 3 D+, 4 GND, 5 G1, 6 G2

## USB_A_2
designator J?
pins: 1 VBUS, 2 D-, 3 D+, 4 GND, 5 G1, 6 G2, 7

## USB_FUSB302
designator U?
footprint MLP14_2R50X2R50X0R80
pins: 1 CC2_1, 2 VBUS, 3 NC1, 4 VDD, 5 INT#, 6 SCL, 7 SDA, 8 NC2, 9 GND, 10 CC1_10, 11 CC1_11, 12 VCONN_12, 13 VCONN_13, 14 CC2_14, 15 ePAD

## USBA_0
designator USB?
footprint USB30
pins: 1 VBUS (power), 2 D-, 3 D+, 4 GND (power), 5 RX-, 6 RX+, 7 GND (power), 8 TX-, 9 TX+, 10 (power), 11 (power), 12, 13

## USBA_1
designator USB?
footprint USB30
pins: 1 VBUS (power), 2 D-, 3 D+, 4 GND (power), 5 RX-, 6 RX+, 7 GND (power), 8 TX-, 9 TX+, 10 (power), 11 (power)

## USBA_2
designator USB?
footprint USB30
pins: 1 VBUS (power), 2 D-, 3 D+, 4 GND (power), 5 RX-, 6 RX+, 7 GND (power), 8 TX-, 9 TX+, 10 (power), 11 (power), 12, 13

## USBA_3
designator USB?
footprint USB30
pins: 1 VBUS (power), 2 D-, 3 D+, 4 GND (power), 5 RX-, 6 RX+, 7 GND (power), 8 TX-, 9 TX+, 10, 11

## USBA_4
designator USB?
footprint USB30
pins: 1 VBUS (power), 2 D-, 3 D+, 4 GND (power), 5 RX-, 6 RX+, 7 GND (power), 8 TX-, 9 TX+, 10, 11

## VLS252012E_0
designator L?
footprint VLS252012E
pins: 1, 2

## WK2124/VK3224/GM8412
designator U?
pins: 1 GND (power), 2 SCS, 3 SCLK, 4 SDIN, 5 SDOUT, 6 RX4, 7 TX4, 8 RST, 9 VCC3V3 (power), 10 IRQ, 11 TX2, 12 RX2, 13 GND (power), 14 TX1, 15 RX1, 16 TX3, 17 RX3, 18 VCC3V3 (power), 19 SOCI, 20 OSCO

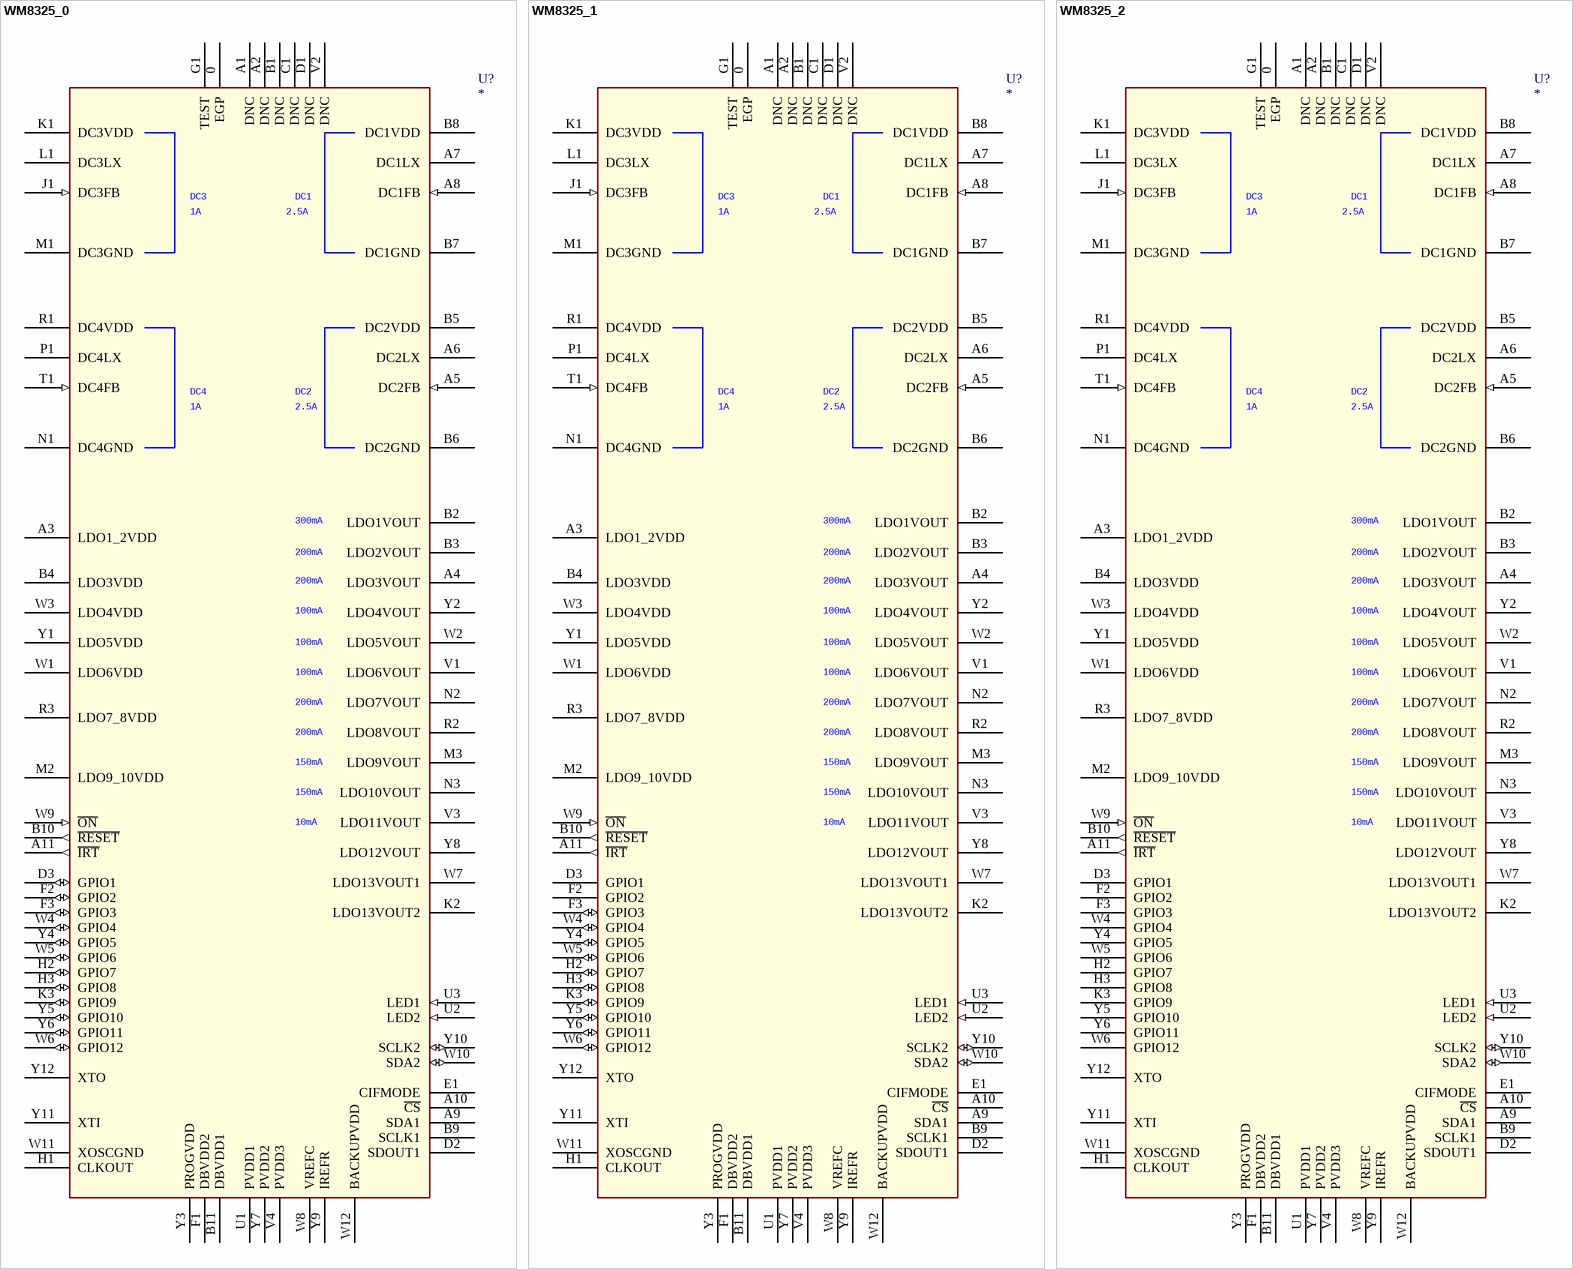
[diagram p184: symbols WM8325_0 to WM8325_2]

## WM8325_0
designator U?
footprint QFN81-8X8
pins: 0 EGP, A1 DNC, A2 DNC, A3 LDO1_2VDD (power), A4 LDO3VOUT (power), A5 DC2FB (in), A6 DC2LX (power), A7 DC1LX (power), A8 DC1FB (in), A9 SDA1, A10 ~{CS}, A11 ~{IRT} (out), B1 DNC, B2 LDO1VOUT (power), B3 LDO2VOUT (power), B4 LDO3VDD (power), B5 DC2VDD (power), B6 DC2GND (power), B7 DC1GND (power), B8 DC1VDD (power), B9 SCLK1, B10 ~{RESET} (out), B11 DBVDD1, C1 DNC, D1 DNC, D2 SDOUT1, D3 GPIO1 (io), E1 CIFMODE, F1 DBVDD2, F2 GPIO2 (io), F3 GPIO3 (io), G1 TEST, H1 CLKOUT, H2 GPIO7 (io), H3 GPIO8 (io), J1 DC3FB (in), K1 DC3VDD (power), K2 LDO13VOUT2 (power), K3 GPIO9 (io), L1 DC3LX (power), M1 DC3GND (power), M2 LDO9_10VDD (power), M3 LDO9VOUT (power), N1 DC4GND (power), N2 LDO7VOUT (power), N3 LDO10VOUT (power), P1 DC4LX (power), R1 DC4VDD (power), R2 LDO8VOUT (power), R3 LDO7_8VDD (power), T1 DC4FB (in), U1 PVDD1, U2 LED2 (in), U3 LED1 (in), V1 LDO6VOUT (power), V2 DNC, V3 LDO11VOUT (power), V4 PVDD3, W1 LDO6VDD (power), W2 LDO5VOUT (power), W3 LDO4VDD (power), W4 GPIO4 (io), W5 GPIO6 (io), W6 GPIO12 (io), W7 LDO13VOUT1 (power), W8 VREFC, W9 ~{ON} (in), W10 SDA2 (io), W11 XOSCGND, W12 BACKUPVDD, Y1 LDO5VDD (power), Y2 LDO4VOUT (power), Y3 PROGVDD, Y4 GPIO5 (io), Y5 GPIO10 (io), Y6 GPIO11 (io), Y7 PVDD2, Y8 LDO12VOUT (power), Y9 IREFR, Y10 SCLK2 (io), Y11 XTI, Y12 XTO
text: DC3; DC1; 1A; 2.5A; DC4; DC2; 300mA; 200mA; 100mA; 150mA; 10mA

## WM8325_1
designator U?
footprint QFN81-8X8
pins: 0 EGP, A1 DNC, A2 DNC, A3 LDO1_2VDD (power), A4 LDO3VOUT (power), A5 DC2FB (in), A6 DC2LX (power), A7 DC1LX (power), A8 DC1FB (in), A9 SDA1, A10 ~{CS}, A11 ~{IRT} (out), B1 DNC, B2 LDO1VOUT (power), B3 LDO2VOUT (power), B4 LDO3VDD (power), B5 DC2VDD (power), B6 DC2GND (power), B7 DC1GND (power), B8 DC1VDD (power), B9 SCLK1, B10 ~{RESET} (out), B11 DBVDD1, C1 DNC, D1 DNC, D2 SDOUT1, D3 GPIO1, E1 CIFMODE, F1 DBVDD2, F2 GPIO2, F3 GPIO3 (io), G1 TEST, H1 CLKOUT, H2 GPIO7 (io), H3 GPIO8 (io), J1 DC3FB (in), K1 DC3VDD (power), K2 LDO13VOUT2 (power), K3 GPIO9 (io), L1 DC3LX (power), M1 DC3GND (power), M2 LDO9_10VDD (power), M3 LDO9VOUT (power), N1 DC4GND (power), N2 LDO7VOUT (power), N3 LDO10VOUT (power), P1 DC4LX (power), R1 DC4VDD (power), R2 LDO8VOUT (power), R3 LDO7_8VDD (power), T1 DC4FB (in), U1 PVDD1, U2 LED2 (in), U3 LED1 (in), V1 LDO6VOUT (power), V2 DNC, V3 LDO11VOUT (power), V4 PVDD3, W1 LDO6VDD (power), W2 LDO5VOUT (power), W3 LDO4VDD (power), W4 GPIO4 (io), W5 GPIO6 (io), W6 GPIO12 (io), W7 LDO13VOUT1 (power), W8 VREFC, W9 ~{ON} (in), W10 SDA2 (io), W11 XOSCGND, W12 BACKUPVDD, Y1 LDO5VDD (power), Y2 LDO4VOUT (power), Y3 PROGVDD, Y4 GPIO5 (io), Y5 GPIO10 (io), Y6 GPIO11 (io), Y7 PVDD2, Y8 LDO12VOUT (power), Y9 IREFR, Y10 SCLK2 (io), Y11 XTI, Y12 XTO
text: DC3; DC1; 1A; 2.5A; DC4; DC2; 300mA; 200mA; 100mA; 150mA; 10mA

## WM8325_2
designator U?
footprint QFN81-8X8
pins: 0 EGP, A1 DNC, A2 DNC, A3 LDO1_2VDD (power), A4 LDO3VOUT (power), A5 DC2FB (in), A6 DC2LX (power), A7 DC1LX (power), A8 DC1FB (in), A9 SDA1, A10 ~{CS}, A11 ~{IRT} (out), B1 DNC, B2 LDO1VOUT (power), B3 LDO2VOUT (power), B4 LDO3VDD (power), B5 DC2VDD (power), B6 DC2GND (power), B7 DC1GND (power), B8 DC1VDD (power), B9 SCLK1, B10 ~{RESET} (out), B11 DBVDD1, C1 DNC, D1 DNC, D2 SDOUT1, D3 GPIO1, E1 CIFMODE, F1 DBVDD2, F2 GPIO2, F3 GPIO3, G1 TEST, H1 CLKOUT, H2 GPIO7, H3 GPIO8, J1 DC3FB (in), K1 DC3VDD (power), K2 LDO13VOUT2 (power), K3 GPIO9, L1 DC3LX (power), M1 DC3GND (power), M2 LDO9_10VDD (power), M3 LDO9VOUT (power), N1 DC4GND (power), N2 LDO7VOUT (power), N3 LDO10VOUT (power), P1 DC4LX (power), R1 DC4VDD (power), R2 LDO8VOUT (power), R3 LDO7_8VDD (power), T1 DC4FB (in), U1 PVDD1, U2 LED2 (in), U3 LED1 (in), V1 LDO6VOUT (power), V2 DNC, V3 LDO11VOUT (power), V4 PVDD3, W1 LDO6VDD (power), W2 LDO5VOUT (power), W3 LDO4VDD (power), W4 GPIO4, W5 GPIO6, W6 GPIO12, W7 LDO13VOUT1 (power), W8 VREFC, W9 ~{ON} (in), W10 SDA2 (io), W11 XOSCGND, W12 BACKUPVDD, Y1 LDO5VDD (power), Y2 LDO4VOUT (power), Y3 PROGVDD, Y4 GPIO5, Y5 GPIO10, Y6 GPIO11, Y7 PVDD2, Y8 LDO12VOUT (power), Y9 IREFR, Y10 SCLK2 (io), Y11 XTI, Y12 XTO
text: DC3; DC1; 1A; 2.5A; DC4; DC2; 300mA; 200mA; 100mA; 150mA; 10mA

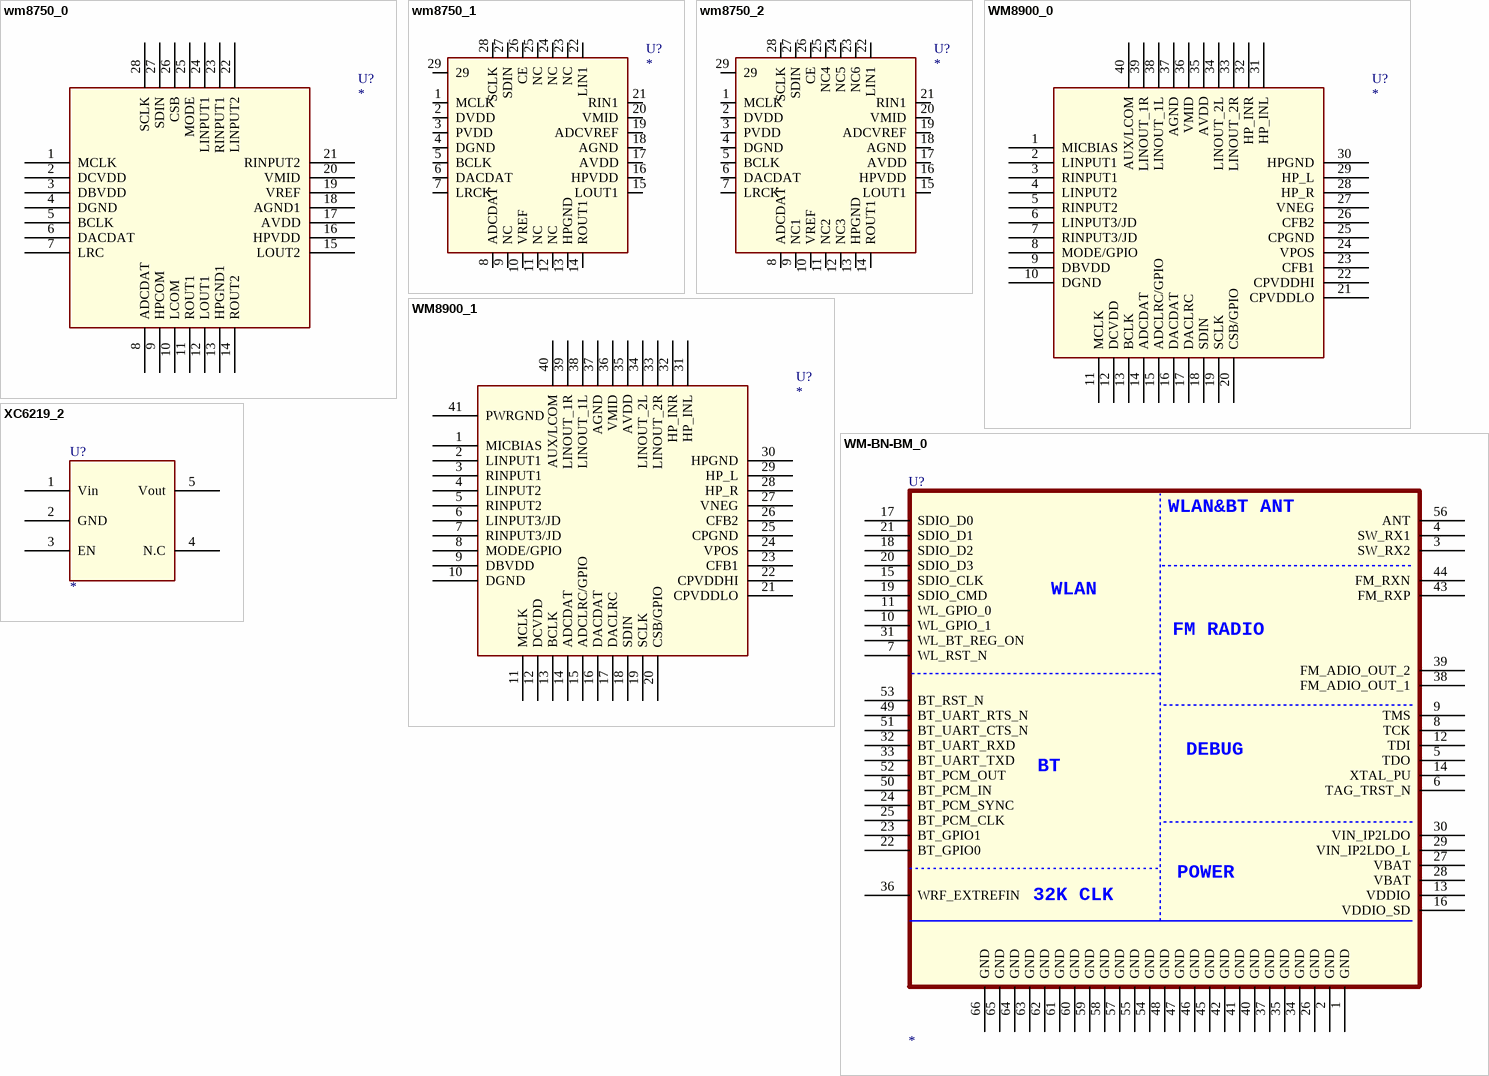
[diagram p185: symbols wm8750_0 to XC6219_2]

## wm8750_0
designator U?
pins: 1 MCLK, 2 DCVDD, 3 DBVDD, 4 DGND, 5 BCLK, 6 DACDAT, 7 LRC, 8 ADCDAT, 9 HPCOM, 10 LCOM, 11 ROUT1, 12 LOUT1, 13 HPGND1, 14 ROUT2, 15 LOUT2, 16 HPVDD, 17 AVDD, 18 AGND1, 19 VREF, 20 VMID, 21 RINPUT2, 22 LINPUT2, 23 RINPUT1, 24 LINPUT1, 25 MODE, 26 CSB, 27 SDIN, 28 SCLK

## wm8750_1
designator U?
pins: 1 MCLK, 2 DVDD, 3 PVDD, 4 DGND, 5 BCLK, 6 DACDAT, 7 LRCK, 8 ADCDAT, 9 NC, 10 VREF, 11 NC, 12 NC, 13 HPGND, 14 ROUT1, 15 LOUT1, 16 HPVDD, 17 AVDD, 18 AGND, 19 ADCVREF, 20 VMID, 21 RIN1, 22 LIN1, 23 NC, 24 NC, 25 NC, 26 CE, 27 SDIN, 28 SCLK, 29

## wm8750_2
designator U?
pins: 1 MCLK, 2 DVDD, 3 PVDD, 4 DGND, 5 BCLK, 6 DACDAT, 7 LRCK, 8 ADCDAT, 9 NC1, 10 VREF, 11 NC2, 12 NC3, 13 HPGND, 14 ROUT1, 15 LOUT1, 16 HPVDD, 17 AVDD, 18 AGND, 19 ADCVREF, 20 VMID, 21 RIN1, 22 LIN1, 23 NC6, 24 NC5, 25 NC4, 26 CE, 27 SDIN, 28 SCLK, 29

## WM8900_0
designator U?
footprint QFN40
pins: 1 MICBIAS, 2 LINPUT1, 3 RINPUT1, 4 LINPUT2, 5 RINPUT2, 6 LINPUT3/JD, 7 RINPUT3/JD, 8 MODE/GPIO, 9 DBVDD, 10 DGND, 11 MCLK, 12 DCVDD, 13 BCLK, 14 ADCDAT, 15 ADCLRC/GPIO, 16 DACDAT, 17 DACLRC, 18 SDIN, 19 SCLK, 20 CSB/GPIO, 21 CPVDDLO, 22 CPVDDHI, 23 CFB1, 24 VPOS, 25 CPGND, 26 CFB2, 27 VNEG, 28 HP_R, 29 HP_L, 30 HPGND, 31 HP_INL, 32 HP_INR, 33 LINOUT_2R, 34 LINOUT_2L, 35 AVDD, 36 VMID, 37 AGND, 38 LINOUT_1L, 39 LINOUT_1R, 40 AUX/LCOM

## WM8900_1
designator U?
footprint QFN40
pins: 1 MICBIAS, 2 LINPUT1, 3 RINPUT1, 4 LINPUT2, 5 RINPUT2, 6 LINPUT3/JD, 7 RINPUT3/JD, 8 MODE/GPIO, 9 DBVDD, 10 DGND, 11 MCLK, 12 DCVDD, 13 BCLK, 14 ADCDAT, 15 ADCLRC/GPIO, 16 DACDAT, 17 DACLRC, 18 SDIN, 19 SCLK, 20 CSB/GPIO, 21 CPVDDLO, 22 CPVDDHI, 23 CFB1, 24 VPOS, 25 CPGND, 26 CFB2, 27 VNEG, 28 HP_R, 29 HP_L, 30 HPGND, 31 HP_INL, 32 HP_INR, 33 LINOUT_2R, 34 LINOUT_2L, 35 AVDD, 36 VMID, 37 AGND, 38 LINOUT_1L, 39 LINOUT_1R, 40 AUX/LCOM, 41 PWRGND

## WM-BN-BM_0
designator U?
footprint LGA66
pins: 1 GND, 2 GND, 3 SW_RX2, 4 SW_RX1, 5 TDO, 6 TAG_TRST_N, 7 WL_RST_N, 8 TCK, 9 TMS, 10 WL_GPIO_1, 11 WL_GPIO_0, 12 TDI, 13 VDDIO, 14 XTAL_PU, 15 SDIO_CLK, 16 VDDIO_SD, 17 SDIO_D0, 18 SDIO_D2, 19 SDIO_CMD, 20 SDIO_D3, 21 SDIO_D1, 22 BT_GPIO0, 23 BT_GPIO1, 24 BT_PCM_SYNC, 25 BT_PCM_CLK, 26 GND, 27 VBAT, 28 VBAT, 29 VIN_IP2LDO_L, 30 VIN_IP2LDO, 31 WL_BT_REG_ON, 32 BT_UART_RXD, 33 BT_UART_TXD, 34 GND, 35 GND, 36 WRF_EXTREFIN, 37 GND, 38 FM_ADIO_OUT_1, 39 FM_ADIO_OUT_2, 40 GND, 41 GND, 42 GND, 43 FM_RXP, 44 FM_RXN, 45 GND, 46 GND, 47 GND, 48 GND, 49 BT_UART_RTS_N, 50 BT_PCM_IN, 51 BT_UART_CTS_N, 52 BT_PCM_OUT, 53 BT_RST_N, 54 GND, 55 GND, 56 ANT, 57 GND, 58 GND, 59 GND, 60 GND, 61 GND, 62 GND, 63 GND, 64 GND, 65 GND, 66 GND
text: WLAN&BT ANT; WLAN; FM RADIO; DEBUG; BT; POWER; 32K CLK

## XC6219_2
designator U?
pins: 1 Vin, 2 GND, 3 EN, 4 N.C, 5 Vout